# Altium integrated library Cypress PLD Ultra37000.IntLib: 166 symbols (part 1 of 12)
Pins are listed as number, name and electrical type; pins without a type are passive.

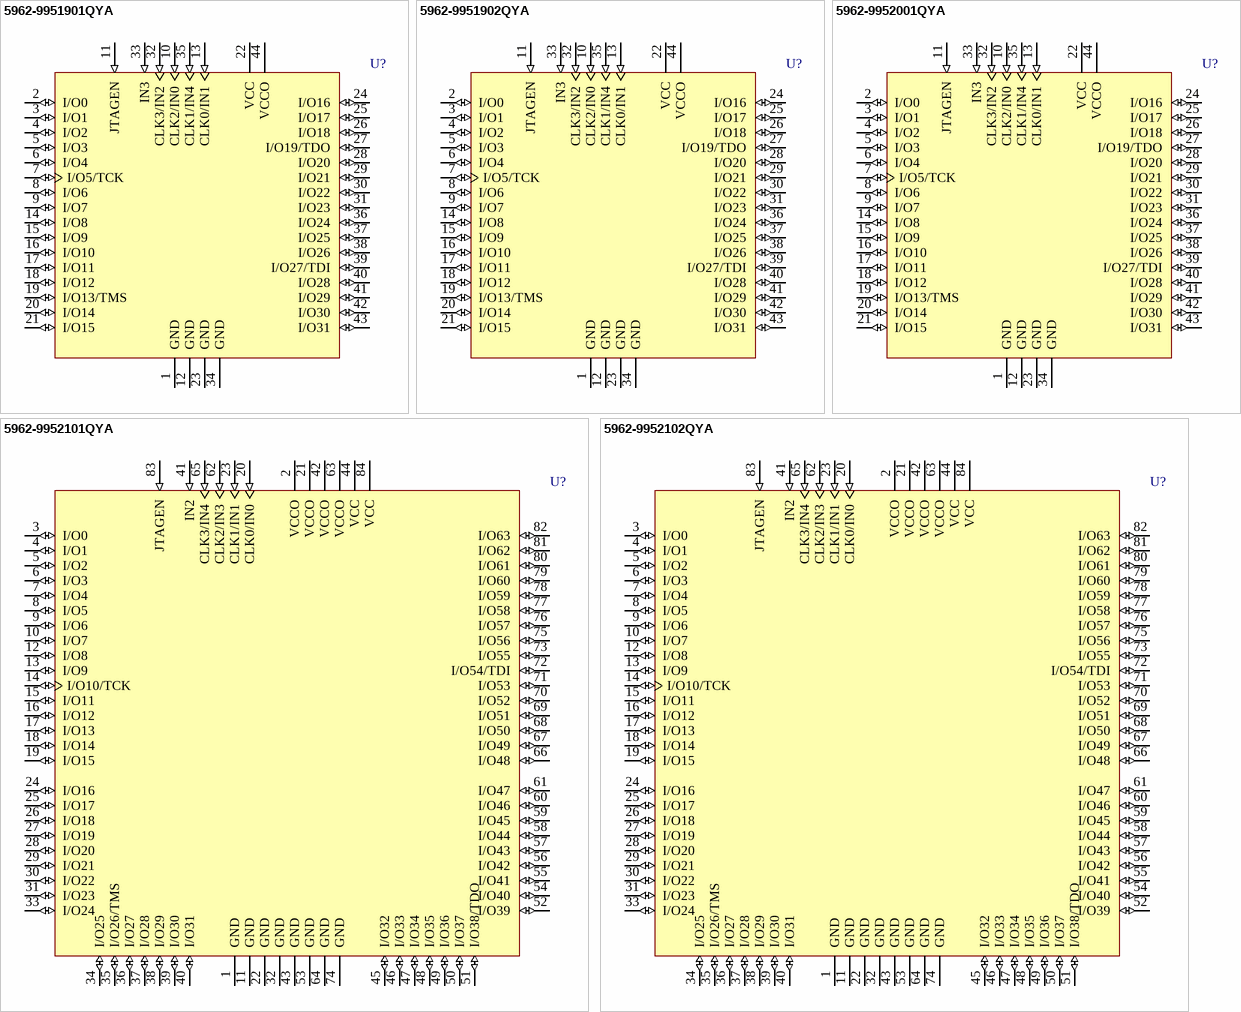
[diagram p0: symbols 5962-9951901QYA to 5962-9952102QYA]

## 5962-9951901QYA
designator U?
Ultra37000 5V, ISR High-Performance CPLD; Note: Component Name corresponds to Military Range; Published: 11-Dec-2002; LatestRevisionDate: 13-Apr-2006; LatestRevisionNote: IPC-7351 Footprint Added.; DatasheetVersion: 18-Apr-2001; PackageVersion: Mar-2001; PackageReference: Y67; Publisher: Altium Limited; PackageDescription: 44-Pin Ceramic Leaded Chip Carrier 1.27 mm Pitch; ComponentLink1Description: Manufacturer Link; ComponentLink1URL: http://www.cypress.com/; ComponentLink2Description: Datasheet; ComponentLink2URL: http://www.cypress.com/portal/server.pt/gateway/PTARGS_0_2_1524_209_259_43/http%3B/sjapp20.mis.cypress.com%3B7001/publishedcontent/publish/design_resources/datasheets/contents/cy37032p_5.pdf
footprint Y67_N (Leaded Chip Carrier, 44-Leads, Body 16.5x16.5mm, Pitch 1.27mm, IPC Medium Density)
footprint Y67_L (Leaded Chip Carrier, 44-Leads, Body 16.5x16.5mm, Pitch 1.27mm, IPC High Density)
footprint Y67_M (Leaded Chip Carrier, 44-Leads, Body 16.5x16.5mm, Pitch 1.27mm, IPC Low Density)
3D model Y67 (44-Pin Ceramic Leaded Chip Carrier 1.27 mm Pitch)
pins: 1 GND (power), 2 I/O0 (io), 3 I/O1 (io), 4 I/O2 (io), 5 I/O3 (io), 6 I/O4 (io), 7 I/O5/TCK (io), 8 I/O6 (io), 9 I/O7 (io), 10 CLK2/IN0 (in), 11 JTAGEN (in), 12 GND (power), 13 CLK0/IN1 (in), 14 I/O8 (io), 15 I/O9 (io), 16 I/O10 (io), 17 I/O11 (io), 18 I/O12 (io), 19 I/O13/TMS (io), 20 I/O14 (io), 21 I/O15 (io), 22 VCC (power), 23 GND (power), 24 I/O16 (io), 25 I/O17 (io), 26 I/O18 (io), 27 I/O19/TDO (io), 28 I/O20 (io), 29 I/O21 (io), 30 I/O22 (io), 31 I/O23 (io), 32 CLK3/IN2 (in), 33 IN3 (in), 34 GND (power), 35 CLK1/IN4 (in), 36 I/O24 (io), 37 I/O25 (io), 38 I/O26 (io), 39 I/O27/TDI (io), 40 I/O28 (io), 41 I/O29 (io), 42 I/O30 (io), 43 I/O31 (io), 44 VCCO (power)

## 5962-9951902QYA
designator U?
Ultra37000 5V, ISR High-Performance CPLD; Note: Component Name corresponds to Military Range; Published: 11-Dec-2002; LatestRevisionDate: 13-Apr-2006; LatestRevisionNote: IPC-7351 Footprint Added.; DatasheetVersion: 18-Apr-2001; PackageVersion: Mar-2001; PackageReference: Y67; Publisher: Altium Limited; PackageDescription: 44-Pin Ceramic Leaded Chip Carrier 1.27 mm Pitch; ComponentLink1Description: Manufacturer Link; ComponentLink1URL: http://www.cypress.com/; ComponentLink2Description: Datasheet; ComponentLink2URL: http://www.cypress.com/portal/server.pt/gateway/PTARGS_0_2_1524_209_259_43/http%3B/sjapp20.mis.cypress.com%3B7001/publishedcontent/publish/design_resources/datasheets/contents/cy37032p_5.pdf
footprint Y67_N (Leaded Chip Carrier, 44-Leads, Body 16.5x16.5mm, Pitch 1.27mm, IPC Medium Density)
footprint Y67_L (Leaded Chip Carrier, 44-Leads, Body 16.5x16.5mm, Pitch 1.27mm, IPC High Density)
footprint Y67_M (Leaded Chip Carrier, 44-Leads, Body 16.5x16.5mm, Pitch 1.27mm, IPC Low Density)
3D model Y67 (44-Pin Ceramic Leaded Chip Carrier 1.27 mm Pitch)
pins: 1 GND (power), 2 I/O0 (io), 3 I/O1 (io), 4 I/O2 (io), 5 I/O3 (io), 6 I/O4 (io), 7 I/O5/TCK (io), 8 I/O6 (io), 9 I/O7 (io), 10 CLK2/IN0 (in), 11 JTAGEN (in), 12 GND (power), 13 CLK0/IN1 (in), 14 I/O8 (io), 15 I/O9 (io), 16 I/O10 (io), 17 I/O11 (io), 18 I/O12 (io), 19 I/O13/TMS (io), 20 I/O14 (io), 21 I/O15 (io), 22 VCC (power), 23 GND (power), 24 I/O16 (io), 25 I/O17 (io), 26 I/O18 (io), 27 I/O19/TDO (io), 28 I/O20 (io), 29 I/O21 (io), 30 I/O22 (io), 31 I/O23 (io), 32 CLK3/IN2 (in), 33 IN3 (in), 34 GND (power), 35 CLK1/IN4 (in), 36 I/O24 (io), 37 I/O25 (io), 38 I/O26 (io), 39 I/O27/TDI (io), 40 I/O28 (io), 41 I/O29 (io), 42 I/O30 (io), 43 I/O31 (io), 44 VCCO (power)

## 5962-9952001QYA
designator U?
Ultra37000 3.3V, ISR High-Performance CPLD; Note: Component Name corresponds to Military Range; Published: 11-Dec-2002; LatestRevisionDate: 13-Apr-2006; LatestRevisionNote: IPC-7351 Footprint Added.; DatasheetVersion: 18-Apr-2001; PackageVersion: Mar-2001; PackageReference: Y67; Publisher: Altium Limited; PackageDescription: 44-Pin Ceramic Leaded Chip Carrier 1.27 mm Pitch; ComponentLink1Description: Manufacturer Link; ComponentLink1URL: http://www.cypress.com/; ComponentLink2Description: Datasheet; ComponentLink2URL: http://www.cypress.com/portal/server.pt/gateway/PTARGS_0_2_1524_209_259_43/http%3B/sjapp20.mis.cypress.com%3B7001/publishedcontent/publish/design_resources/datasheets/contents/cy37032p_5.pdf
footprint Y67_N (Leaded Chip Carrier, 44-Leads, Body 16.5x16.5mm, Pitch 1.27mm, IPC Medium Density)
footprint Y67_L (Leaded Chip Carrier, 44-Leads, Body 16.5x16.5mm, Pitch 1.27mm, IPC High Density)
footprint Y67_M (Leaded Chip Carrier, 44-Leads, Body 16.5x16.5mm, Pitch 1.27mm, IPC Low Density)
3D model Y67 (44-Pin Ceramic Leaded Chip Carrier 1.27 mm Pitch)
pins: 1 GND (power), 2 I/O0 (io), 3 I/O1 (io), 4 I/O2 (io), 5 I/O3 (io), 6 I/O4 (io), 7 I/O5/TCK (io), 8 I/O6 (io), 9 I/O7 (io), 10 CLK2/IN0 (in), 11 JTAGEN (in), 12 GND (power), 13 CLK0/IN1 (in), 14 I/O8 (io), 15 I/O9 (io), 16 I/O10 (io), 17 I/O11 (io), 18 I/O12 (io), 19 I/O13/TMS (io), 20 I/O14 (io), 21 I/O15 (io), 22 VCC (power), 23 GND (power), 24 I/O16 (io), 25 I/O17 (io), 26 I/O18 (io), 27 I/O19/TDO (io), 28 I/O20 (io), 29 I/O21 (io), 30 I/O22 (io), 31 I/O23 (io), 32 CLK3/IN2 (in), 33 IN3 (in), 34 GND (power), 35 CLK1/IN4 (in), 36 I/O24 (io), 37 I/O25 (io), 38 I/O26 (io), 39 I/O27/TDI (io), 40 I/O28 (io), 41 I/O29 (io), 42 I/O30 (io), 43 I/O31 (io), 44 VCCO (power)

## 5962-9952101QYA
designator U?
Ultra37000 5V, ISR High-Performance CPLD; Note: Component Name corresponds to Military Range; Published: 11-Dec-2002; LatestRevisionDate: 13-Apr-2006; LatestRevisionNote: IPC-7351 Footprint Added.; DatasheetVersion: 18-Apr-2001; PackageVersion: 15-Mar-2001; PackageReference: Y84; Publisher: Altium Limited; PackageDescription: 84-Pin Ceramic Leaded Chip Carrier 1.27 mm Pitch; ComponentLink1Description: Manufacturer Link; ComponentLink1URL: http://www.cypress.com/; ComponentLink2Description: Datasheet; ComponentLink2URL: http://www.cypress.com/portal/server.pt/gateway/PTARGS_0_2_1524_209_259_43/http%3B/sjapp20.mis.cypress.com%3B7001/publishedcontent/publish/design_resources/datasheets/contents/cy37032p_5.pdf
footprint Y84_N (Leaded Chip Carrier, 84-Leads, Body 29.2x29.2mm, Pitch 1.27mm, IPC Medium Density)
footprint Y84_L (Leaded Chip Carrier, 84-Leads, Body 29.2x29.2mm, Pitch 1.27mm, IPC High Density)
footprint Y84_M (Leaded Chip Carrier, 84-Leads, Body 29.2x29.2mm, Pitch 1.27mm, IPC Low Density)
3D model Y84 (84-Pin Ceramic Leaded Chip Carrier 1.27 mm Pitch)
pins: 1 GND (power), 2 VCCO (power), 3 I/O0 (io), 4 I/O1 (io), 5 I/O2 (io), 6 I/O3 (io), 7 I/O4 (io), 8 I/O5 (io), 9 I/O6 (io), 10 I/O7 (io), 11 GND (power), 12 I/O8 (io), 13 I/O9 (io), 14 I/O10/TCK (io), 15 I/O11 (io), 16 I/O12 (io), 17 I/O13 (io), 18 I/O14 (io), 19 I/O15 (io), 20 CLK0/IN0 (in), 21 VCCO (power), 22 GND (power), 23 CLK1/IN1 (in), 24 I/O16 (io), 25 I/O17 (io), 26 I/O18 (io), 27 I/O19 (io), 28 I/O20 (io), 29 I/O21 (io), 30 I/O22 (io), 31 I/O23 (io), 32 GND (power), 33 I/O24 (io), 34 I/O25 (io), 35 I/O26/TMS (io), 36 I/O27 (io), 37 I/O28 (io), 38 I/O29 (io), 39 I/O30 (io), 40 I/O31 (io), 41 IN2 (in), 42 VCCO (power), 43 GND (power), 44 VCC (power), 45 I/O32 (io), 46 I/O33 (io), 47 I/O34 (io), 48 I/O35 (io), 49 I/O36 (io), 50 I/O37 (io), 51 I/O38/TDO (io), 52 I/O39 (io), 53 GND (power), 54 I/O40 (io), 55 I/O41 (io), 56 I/O42 (io), 57 I/O43 (io), 58 I/O44 (io), 59 I/O45 (io), 60 I/O46 (io), 61 I/O47 (io), 62 CLK2/IN3 (in), 63 VCCO (power), 64 GND (power), 65 CLK3/IN4 (in), 66 I/O48 (io), 67 I/O49 (io), 68 I/O50 (io), 69 I/O51 (io), 70 I/O52 (io), 71 I/O53 (io), 72 I/O54/TDI (io), 73 I/O55 (io), 74 GND (power), 75 I/O56 (io), 76 I/O57 (io), 77 I/O58 (io), 78 I/O59 (io), 79 I/O60 (io), 80 I/O61 (io), 81 I/O62 (io), 82 I/O63 (io), 83 JTAGEN (in), 84 VCC (power)

## 5962-9952102QYA
designator U?
Ultra37000 5V, ISR High-Performance CPLD; Note: Component Name corresponds to Military Range; Published: 11-Dec-2002; LatestRevisionDate: 13-Apr-2006; LatestRevisionNote: IPC-7351 Footprint Added.; DatasheetVersion: 18-Apr-2001; PackageVersion: 15-Mar-2001; PackageReference: Y84; Publisher: Altium Limited; PackageDescription: 84-Pin Ceramic Leaded Chip Carrier 1.27 mm Pitch; ComponentLink1Description: Manufacturer Link; ComponentLink1URL: http://www.cypress.com/; ComponentLink2Description: Datasheet; ComponentLink2URL: http://www.cypress.com/portal/server.pt/gateway/PTARGS_0_2_1524_209_259_43/http%3B/sjapp20.mis.cypress.com%3B7001/publishedcontent/publish/design_resources/datasheets/contents/cy37032p_5.pdf
footprint Y84_N (Leaded Chip Carrier, 84-Leads, Body 29.2x29.2mm, Pitch 1.27mm, IPC Medium Density)
footprint Y84_L (Leaded Chip Carrier, 84-Leads, Body 29.2x29.2mm, Pitch 1.27mm, IPC High Density)
footprint Y84_M (Leaded Chip Carrier, 84-Leads, Body 29.2x29.2mm, Pitch 1.27mm, IPC Low Density)
3D model Y84 (84-Pin Ceramic Leaded Chip Carrier 1.27 mm Pitch)
pins: 1 GND (power), 2 VCCO (power), 3 I/O0 (io), 4 I/O1 (io), 5 I/O2 (io), 6 I/O3 (io), 7 I/O4 (io), 8 I/O5 (io), 9 I/O6 (io), 10 I/O7 (io), 11 GND (power), 12 I/O8 (io), 13 I/O9 (io), 14 I/O10/TCK (io), 15 I/O11 (io), 16 I/O12 (io), 17 I/O13 (io), 18 I/O14 (io), 19 I/O15 (io), 20 CLK0/IN0 (in), 21 VCCO (power), 22 GND (power), 23 CLK1/IN1 (in), 24 I/O16 (io), 25 I/O17 (io), 26 I/O18 (io), 27 I/O19 (io), 28 I/O20 (io), 29 I/O21 (io), 30 I/O22 (io), 31 I/O23 (io), 32 GND (power), 33 I/O24 (io), 34 I/O25 (io), 35 I/O26/TMS (io), 36 I/O27 (io), 37 I/O28 (io), 38 I/O29 (io), 39 I/O30 (io), 40 I/O31 (io), 41 IN2 (in), 42 VCCO (power), 43 GND (power), 44 VCC (power), 45 I/O32 (io), 46 I/O33 (io), 47 I/O34 (io), 48 I/O35 (io), 49 I/O36 (io), 50 I/O37 (io), 51 I/O38/TDO (io), 52 I/O39 (io), 53 GND (power), 54 I/O40 (io), 55 I/O41 (io), 56 I/O42 (io), 57 I/O43 (io), 58 I/O44 (io), 59 I/O45 (io), 60 I/O46 (io), 61 I/O47 (io), 62 CLK2/IN3 (in), 63 VCCO (power), 64 GND (power), 65 CLK3/IN4 (in), 66 I/O48 (io), 67 I/O49 (io), 68 I/O50 (io), 69 I/O51 (io), 70 I/O52 (io), 71 I/O53 (io), 72 I/O54/TDI (io), 73 I/O55 (io), 74 GND (power), 75 I/O56 (io), 76 I/O57 (io), 77 I/O58 (io), 78 I/O59 (io), 79 I/O60 (io), 80 I/O61 (io), 81 I/O62 (io), 82 I/O63 (io), 83 JTAGEN (in), 84 VCC (power)

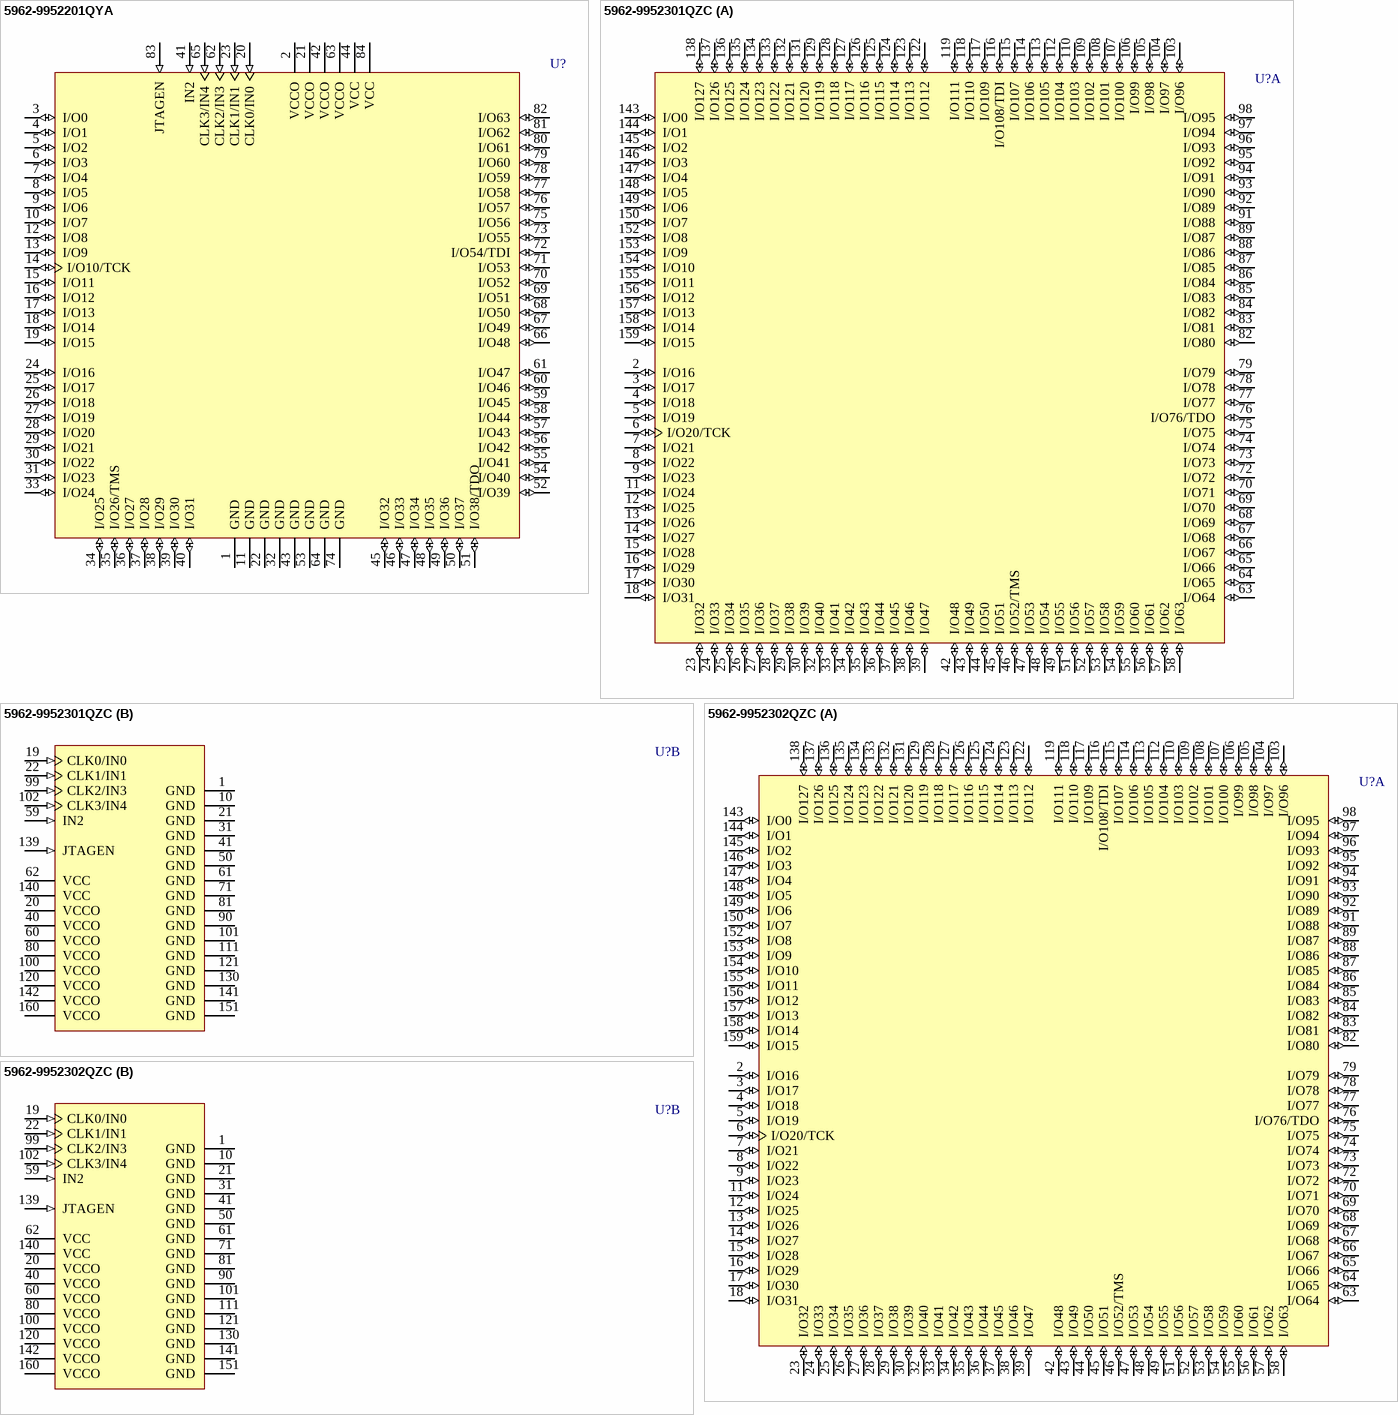
[diagram p1: symbols 5962-9952201QYA to 5962-9952302QZC]

## 5962-9952201QYA
designator U?
Ultra37000 3.3V, ISR High-Performance CPLD; Note: Component Name corresponds to Military Range; Published: 11-Dec-2002; LatestRevisionDate: 13-Apr-2006; LatestRevisionNote: IPC-7351 Footprint Added.; DatasheetVersion: 18-Apr-2001; PackageVersion: 15-Mar-2001; PackageReference: Y84; Publisher: Altium Limited; PackageDescription: 84-Pin Ceramic Leaded Chip Carrier 1.27 mm Pitch; ComponentLink1Description: Manufacturer Link; ComponentLink1URL: http://www.cypress.com/; ComponentLink2Description: Datasheet; ComponentLink2URL: http://www.cypress.com/portal/server.pt/gateway/PTARGS_0_2_1524_209_259_43/http%3B/sjapp20.mis.cypress.com%3B7001/publishedcontent/publish/design_resources/datasheets/contents/cy37032p_5.pdf
footprint Y84_N (Leaded Chip Carrier, 84-Leads, Body 29.2x29.2mm, Pitch 1.27mm, IPC Medium Density)
footprint Y84_L (Leaded Chip Carrier, 84-Leads, Body 29.2x29.2mm, Pitch 1.27mm, IPC High Density)
footprint Y84_M (Leaded Chip Carrier, 84-Leads, Body 29.2x29.2mm, Pitch 1.27mm, IPC Low Density)
3D model Y84 (84-Pin Ceramic Leaded Chip Carrier 1.27 mm Pitch)
pins: 1 GND (power), 2 VCCO (power), 3 I/O0 (io), 4 I/O1 (io), 5 I/O2 (io), 6 I/O3 (io), 7 I/O4 (io), 8 I/O5 (io), 9 I/O6 (io), 10 I/O7 (io), 11 GND (power), 12 I/O8 (io), 13 I/O9 (io), 14 I/O10/TCK (io), 15 I/O11 (io), 16 I/O12 (io), 17 I/O13 (io), 18 I/O14 (io), 19 I/O15 (io), 20 CLK0/IN0 (in), 21 VCCO (power), 22 GND (power), 23 CLK1/IN1 (in), 24 I/O16 (io), 25 I/O17 (io), 26 I/O18 (io), 27 I/O19 (io), 28 I/O20 (io), 29 I/O21 (io), 30 I/O22 (io), 31 I/O23 (io), 32 GND (power), 33 I/O24 (io), 34 I/O25 (io), 35 I/O26/TMS (io), 36 I/O27 (io), 37 I/O28 (io), 38 I/O29 (io), 39 I/O30 (io), 40 I/O31 (io), 41 IN2 (in), 42 VCCO (power), 43 GND (power), 44 VCC (power), 45 I/O32 (io), 46 I/O33 (io), 47 I/O34 (io), 48 I/O35 (io), 49 I/O36 (io), 50 I/O37 (io), 51 I/O38/TDO (io), 52 I/O39 (io), 53 GND (power), 54 I/O40 (io), 55 I/O41 (io), 56 I/O42 (io), 57 I/O43 (io), 58 I/O44 (io), 59 I/O45 (io), 60 I/O46 (io), 61 I/O47 (io), 62 CLK2/IN3 (in), 63 VCCO (power), 64 GND (power), 65 CLK3/IN4 (in), 66 I/O48 (io), 67 I/O49 (io), 68 I/O50 (io), 69 I/O51 (io), 70 I/O52 (io), 71 I/O53 (io), 72 I/O54/TDI (io), 73 I/O55 (io), 74 GND (power), 75 I/O56 (io), 76 I/O57 (io), 77 I/O58 (io), 78 I/O59 (io), 79 I/O60 (io), 80 I/O61 (io), 81 I/O62 (io), 82 I/O63 (io), 83 JTAGEN (in), 84 VCC (power)

## 5962-9952301QZC
designator U?
Ultra37000 5V, ISR High-Performance CPLD; Note: Component Name corresponds to Military Range; Published: 11-Dec-2002; LatestRevisionDate: 13-Apr-2006; LatestRevisionNote: IPC-7351 Footprint Added.; DatasheetVersion: 18-Apr-2001; PackageVersion: Dec-2000; PackageReference: U162; Publisher: Altium Limited; PackageDescription: 160-Pin Ceramic Cavity Up Quad Flat Pack 0.65 mm Pitch; ComponentLink1Description: Manufacturer Link; ComponentLink1URL: http://www.cypress.com/; ComponentLink2Description: Datasheet; ComponentLink2URL: http://www.cypress.com/portal/server.pt/gateway/PTARGS_0_2_1524_209_259_43/http%3B/sjapp20.mis.cypress.com%3B7001/publishedcontent/publish/design_resources/datasheets/contents/cy37032p_5.pdf
footprint U162_N (QFP, 160-Leads, Body 28 x 28mm, Pitch 0.65mm, IPC Medium Density)
footprint U162_L (QFP, 160-Leads, Body 28 x 28mm, Pitch 0.65mm, IPC High Density)
footprint U162_M (QFP, 160-Leads, Body 28 x 28mm, Pitch 0.65mm, IPC Low Density)
3D model U162 (160-Pin Ceramic Cavity Up Quad Flat Pack 0.65 mm Pitch)
part A pins: 2 I/O16 (io), 3 I/O17 (io), 4 I/O18 (io), 5 I/O19 (io), 6 I/O20/TCK (io), 7 I/O21 (io), 8 I/O22 (io), 9 I/O23 (io), 11 I/O24 (io), 12 I/O25 (io), 13 I/O26 (io), 14 I/O27 (io), 15 I/O28 (io), 16 I/O29 (io), 17 I/O30 (io), 18 I/O31 (io), 23 I/O32 (io), 24 I/O33 (io), 25 I/O34 (io), 26 I/O35 (io), 27 I/O36 (io), 28 I/O37 (io), 29 I/O38 (io), 30 I/O39 (io), 32 I/O40 (io), 33 I/O41 (io), 34 I/O42 (io), 35 I/O43 (io), 36 I/O44 (io), 37 I/O45 (io), 38 I/O46 (io), 39 I/O47 (io), 42 I/O48 (io), 43 I/O49 (io), 44 I/O50 (io), 45 I/O51 (io), 46 I/O52/TMS (io), 47 I/O53 (io), 48 I/O54 (io), 49 I/O55 (io), 51 I/O56 (io), 52 I/O57 (io), 53 I/O58 (io), 54 I/O59 (io), 55 I/O60 (io), 56 I/O61 (io), 57 I/O62 (io), 58 I/O63 (io), 63 I/O64 (io), 64 I/O65 (io), 65 I/O66 (io), 66 I/O67 (io), 67 I/O68 (io), 68 I/O69 (io), 69 I/O70 (io), 70 I/O71 (io), 72 I/O72 (io), 73 I/O73 (io), 74 I/O74 (io), 75 I/O75 (io), 76 I/O76/TDO (io), 77 I/O77 (io), 78 I/O78 (io), 79 I/O79 (io), 82 I/O80 (io), 83 I/O81 (io), 84 I/O82 (io), 85 I/O83 (io), 86 I/O84 (io), 87 I/O85 (io), 88 I/O86 (io), 89 I/O87 (io), 91 I/O88 (io), 92 I/O89 (io), 93 I/O90 (io), 94 I/O91 (io), 95 I/O92 (io), 96 I/O93 (io), 97 I/O94 (io), 98 I/O95 (io), 103 I/O96 (io), 104 I/O97 (io), 105 I/O98 (io), 106 I/O99 (io), 107 I/O100 (io), 108 I/O101 (io), 109 I/O102 (io), 110 I/O103 (io), 112 I/O104 (io), 113 I/O105 (io), 114 I/O106 (io), 115 I/O107 (io), 116 I/O108/TDI (io), 117 I/O109 (io), 118 I/O110 (io), 119 I/O111 (io), 122 I/O112 (io), 123 I/O113 (io), 124 I/O114 (io), 125 I/O115 (io), 126 I/O116 (io), 127 I/O117 (io), 128 I/O118 (io), 129 I/O119 (io), 131 I/O120 (io), 132 I/O121 (io), 133 I/O122 (io), 134 I/O123 (io), 135 I/O124 (io), 136 I/O125 (io), 137 I/O126 (io), 138 I/O127 (io), 143 I/O0 (io), 144 I/O1 (io), 145 I/O2 (io), 146 I/O3 (io), 147 I/O4 (io), 148 I/O5 (io), 149 I/O6 (io), 150 I/O7 (io), 152 I/O8 (io), 153 I/O9 (io), 154 I/O10 (io), 155 I/O11 (io), 156 I/O12 (io), 157 I/O13 (io), 158 I/O14 (io), 159 I/O15 (io)
part B pins: 1 GND (power), 10 GND (power), 19 CLK0/IN0 (in), 20 VCCO (power), 21 GND (power), 22 CLK1/IN1 (in), 31 GND (power), 40 VCCO (power), 41 GND (power), 50 GND (power), 59 IN2 (in), 60 VCCO (power), 61 GND (power), 62 VCC (power), 71 GND (power), 80 VCCO (power), 81 GND (power), 90 GND (power), 99 CLK2/IN3 (in), 100 VCCO (power), 101 GND (power), 102 CLK3/IN4 (in), 111 GND (power), 120 VCCO (power), 121 GND (power), 130 GND (power), 139 JTAGEN (in), 140 VCC (power), 141 GND (power), 142 VCCO (power), 151 GND (power), 160 VCCO (power)

## 5962-9952302QZC
designator U?
Ultra37000 5V, ISR High-Performance CPLD; Note: Component Name corresponds to Military Range; Published: 11-Dec-2002; LatestRevisionDate: 13-Apr-2006; LatestRevisionNote: IPC-7351 Footprint Added.; DatasheetVersion: 18-Apr-2001; PackageVersion: Dec-2000; PackageReference: U162; Publisher: Altium Limited; PackageDescription: 160-Pin Ceramic Cavity Up Quad Flat Pack 0.65 mm Pitch; ComponentLink1Description: Manufacturer Link; ComponentLink1URL: http://www.cypress.com/; ComponentLink2Description: Datasheet; ComponentLink2URL: http://www.cypress.com/portal/server.pt/gateway/PTARGS_0_2_1524_209_259_43/http%3B/sjapp20.mis.cypress.com%3B7001/publishedcontent/publish/design_resources/datasheets/contents/cy37032p_5.pdf
footprint U162_N (QFP, 160-Leads, Body 28 x 28mm, Pitch 0.65mm, IPC Medium Density)
footprint U162_L (QFP, 160-Leads, Body 28 x 28mm, Pitch 0.65mm, IPC High Density)
footprint U162_M (QFP, 160-Leads, Body 28 x 28mm, Pitch 0.65mm, IPC Low Density)
3D model U162 (160-Pin Ceramic Cavity Up Quad Flat Pack 0.65 mm Pitch)
part A pins: 2 I/O16 (io), 3 I/O17 (io), 4 I/O18 (io), 5 I/O19 (io), 6 I/O20/TCK (io), 7 I/O21 (io), 8 I/O22 (io), 9 I/O23 (io), 11 I/O24 (io), 12 I/O25 (io), 13 I/O26 (io), 14 I/O27 (io), 15 I/O28 (io), 16 I/O29 (io), 17 I/O30 (io), 18 I/O31 (io), 23 I/O32 (io), 24 I/O33 (io), 25 I/O34 (io), 26 I/O35 (io), 27 I/O36 (io), 28 I/O37 (io), 29 I/O38 (io), 30 I/O39 (io), 32 I/O40 (io), 33 I/O41 (io), 34 I/O42 (io), 35 I/O43 (io), 36 I/O44 (io), 37 I/O45 (io), 38 I/O46 (io), 39 I/O47 (io), 42 I/O48 (io), 43 I/O49 (io), 44 I/O50 (io), 45 I/O51 (io), 46 I/O52/TMS (io), 47 I/O53 (io), 48 I/O54 (io), 49 I/O55 (io), 51 I/O56 (io), 52 I/O57 (io), 53 I/O58 (io), 54 I/O59 (io), 55 I/O60 (io), 56 I/O61 (io), 57 I/O62 (io), 58 I/O63 (io), 63 I/O64 (io), 64 I/O65 (io), 65 I/O66 (io), 66 I/O67 (io), 67 I/O68 (io), 68 I/O69 (io), 69 I/O70 (io), 70 I/O71 (io), 72 I/O72 (io), 73 I/O73 (io), 74 I/O74 (io), 75 I/O75 (io), 76 I/O76/TDO (io), 77 I/O77 (io), 78 I/O78 (io), 79 I/O79 (io), 82 I/O80 (io), 83 I/O81 (io), 84 I/O82 (io), 85 I/O83 (io), 86 I/O84 (io), 87 I/O85 (io), 88 I/O86 (io), 89 I/O87 (io), 91 I/O88 (io), 92 I/O89 (io), 93 I/O90 (io), 94 I/O91 (io), 95 I/O92 (io), 96 I/O93 (io), 97 I/O94 (io), 98 I/O95 (io), 103 I/O96 (io), 104 I/O97 (io), 105 I/O98 (io), 106 I/O99 (io), 107 I/O100 (io), 108 I/O101 (io), 109 I/O102 (io), 110 I/O103 (io), 112 I/O104 (io), 113 I/O105 (io), 114 I/O106 (io), 115 I/O107 (io), 116 I/O108/TDI (io), 117 I/O109 (io), 118 I/O110 (io), 119 I/O111 (io), 122 I/O112 (io), 123 I/O113 (io), 124 I/O114 (io), 125 I/O115 (io), 126 I/O116 (io), 127 I/O117 (io), 128 I/O118 (io), 129 I/O119 (io), 131 I/O120 (io), 132 I/O121 (io), 133 I/O122 (io), 134 I/O123 (io), 135 I/O124 (io), 136 I/O125 (io), 137 I/O126 (io), 138 I/O127 (io), 143 I/O0 (io), 144 I/O1 (io), 145 I/O2 (io), 146 I/O3 (io), 147 I/O4 (io), 148 I/O5 (io), 149 I/O6 (io), 150 I/O7 (io), 152 I/O8 (io), 153 I/O9 (io), 154 I/O10 (io), 155 I/O11 (io), 156 I/O12 (io), 157 I/O13 (io), 158 I/O14 (io), 159 I/O15 (io)
part B pins: 1 GND (power), 10 GND (power), 19 CLK0/IN0 (in), 20 VCCO (power), 21 GND (power), 22 CLK1/IN1 (in), 31 GND (power), 40 VCCO (power), 41 GND (power), 50 GND (power), 59 IN2 (in), 60 VCCO (power), 61 GND (power), 62 VCC (power), 71 GND (power), 80 VCCO (power), 81 GND (power), 90 GND (power), 99 CLK2/IN3 (in), 100 VCCO (power), 101 GND (power), 102 CLK3/IN4 (in), 111 GND (power), 120 VCCO (power), 121 GND (power), 130 GND (power), 139 JTAGEN (in), 140 VCC (power), 141 GND (power), 142 VCCO (power), 151 GND (power), 160 VCCO (power)

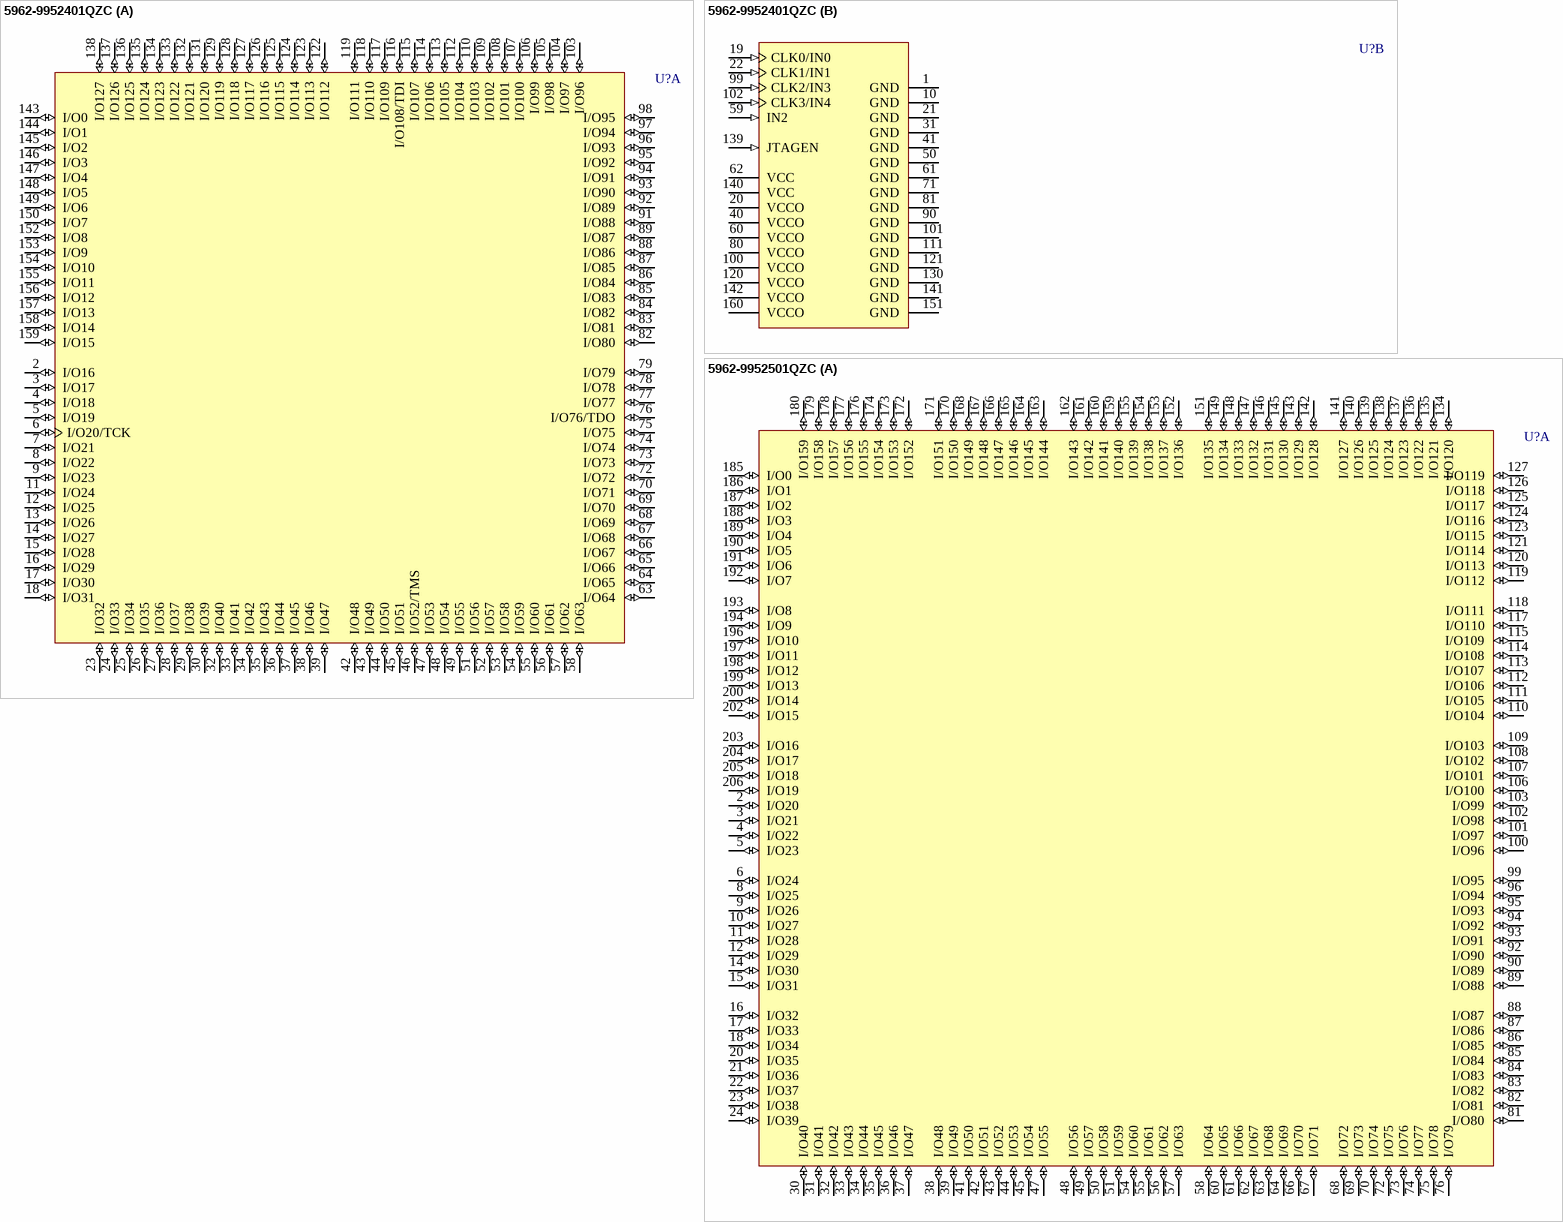
[diagram p2: symbols 5962-9952401QZC to 5962-9952501QZC]

## 5962-9952401QZC
designator U?
Ultra37000 3.3V, ISR High-Performance CPLD; Note: Component Name corresponds to Military Range; Published: 11-Dec-2002; LatestRevisionDate: 13-Apr-2006; LatestRevisionNote: IPC-7351 Footprint Added.; DatasheetVersion: 18-Apr-2001; PackageVersion: Dec-2000; PackageReference: U162; Publisher: Altium Limited; PackageDescription: 160-Pin Ceramic Cavity Up Quad Flat Pack 0.65 mm Pitch; ComponentLink1Description: Manufacturer Link; ComponentLink1URL: http://www.cypress.com/; ComponentLink2Description: Datasheet; ComponentLink2URL: http://www.cypress.com/portal/server.pt/gateway/PTARGS_0_2_1524_209_259_43/http%3B/sjapp20.mis.cypress.com%3B7001/publishedcontent/publish/design_resources/datasheets/contents/cy37032p_5.pdf
footprint U162_N (QFP, 160-Leads, Body 28 x 28mm, Pitch 0.65mm, IPC Medium Density)
footprint U162_L (QFP, 160-Leads, Body 28 x 28mm, Pitch 0.65mm, IPC High Density)
footprint U162_M (QFP, 160-Leads, Body 28 x 28mm, Pitch 0.65mm, IPC Low Density)
3D model U162 (160-Pin Ceramic Cavity Up Quad Flat Pack 0.65 mm Pitch)
part A pins: 2 I/O16 (io), 3 I/O17 (io), 4 I/O18 (io), 5 I/O19 (io), 6 I/O20/TCK (io), 7 I/O21 (io), 8 I/O22 (io), 9 I/O23 (io), 11 I/O24 (io), 12 I/O25 (io), 13 I/O26 (io), 14 I/O27 (io), 15 I/O28 (io), 16 I/O29 (io), 17 I/O30 (io), 18 I/O31 (io), 23 I/O32 (io), 24 I/O33 (io), 25 I/O34 (io), 26 I/O35 (io), 27 I/O36 (io), 28 I/O37 (io), 29 I/O38 (io), 30 I/O39 (io), 32 I/O40 (io), 33 I/O41 (io), 34 I/O42 (io), 35 I/O43 (io), 36 I/O44 (io), 37 I/O45 (io), 38 I/O46 (io), 39 I/O47 (io), 42 I/O48 (io), 43 I/O49 (io), 44 I/O50 (io), 45 I/O51 (io), 46 I/O52/TMS (io), 47 I/O53 (io), 48 I/O54 (io), 49 I/O55 (io), 51 I/O56 (io), 52 I/O57 (io), 53 I/O58 (io), 54 I/O59 (io), 55 I/O60 (io), 56 I/O61 (io), 57 I/O62 (io), 58 I/O63 (io), 63 I/O64 (io), 64 I/O65 (io), 65 I/O66 (io), 66 I/O67 (io), 67 I/O68 (io), 68 I/O69 (io), 69 I/O70 (io), 70 I/O71 (io), 72 I/O72 (io), 73 I/O73 (io), 74 I/O74 (io), 75 I/O75 (io), 76 I/O76/TDO (io), 77 I/O77 (io), 78 I/O78 (io), 79 I/O79 (io), 82 I/O80 (io), 83 I/O81 (io), 84 I/O82 (io), 85 I/O83 (io), 86 I/O84 (io), 87 I/O85 (io), 88 I/O86 (io), 89 I/O87 (io), 91 I/O88 (io), 92 I/O89 (io), 93 I/O90 (io), 94 I/O91 (io), 95 I/O92 (io), 96 I/O93 (io), 97 I/O94 (io), 98 I/O95 (io), 103 I/O96 (io), 104 I/O97 (io), 105 I/O98 (io), 106 I/O99 (io), 107 I/O100 (io), 108 I/O101 (io), 109 I/O102 (io), 110 I/O103 (io), 112 I/O104 (io), 113 I/O105 (io), 114 I/O106 (io), 115 I/O107 (io), 116 I/O108/TDI (io), 117 I/O109 (io), 118 I/O110 (io), 119 I/O111 (io), 122 I/O112 (io), 123 I/O113 (io), 124 I/O114 (io), 125 I/O115 (io), 126 I/O116 (io), 127 I/O117 (io), 128 I/O118 (io), 129 I/O119 (io), 131 I/O120 (io), 132 I/O121 (io), 133 I/O122 (io), 134 I/O123 (io), 135 I/O124 (io), 136 I/O125 (io), 137 I/O126 (io), 138 I/O127 (io), 143 I/O0 (io), 144 I/O1 (io), 145 I/O2 (io), 146 I/O3 (io), 147 I/O4 (io), 148 I/O5 (io), 149 I/O6 (io), 150 I/O7 (io), 152 I/O8 (io), 153 I/O9 (io), 154 I/O10 (io), 155 I/O11 (io), 156 I/O12 (io), 157 I/O13 (io), 158 I/O14 (io), 159 I/O15 (io)
part B pins: 1 GND (power), 10 GND (power), 19 CLK0/IN0 (in), 20 VCCO (power), 21 GND (power), 22 CLK1/IN1 (in), 31 GND (power), 40 VCCO (power), 41 GND (power), 50 GND (power), 59 IN2 (in), 60 VCCO (power), 61 GND (power), 62 VCC (power), 71 GND (power), 80 VCCO (power), 81 GND (power), 90 GND (power), 99 CLK2/IN3 (in), 100 VCCO (power), 101 GND (power), 102 CLK3/IN4 (in), 111 GND (power), 120 VCCO (power), 121 GND (power), 130 GND (power), 139 JTAGEN (in), 140 VCC (power), 141 GND (power), 142 VCCO (power), 151 GND (power), 160 VCCO (power)

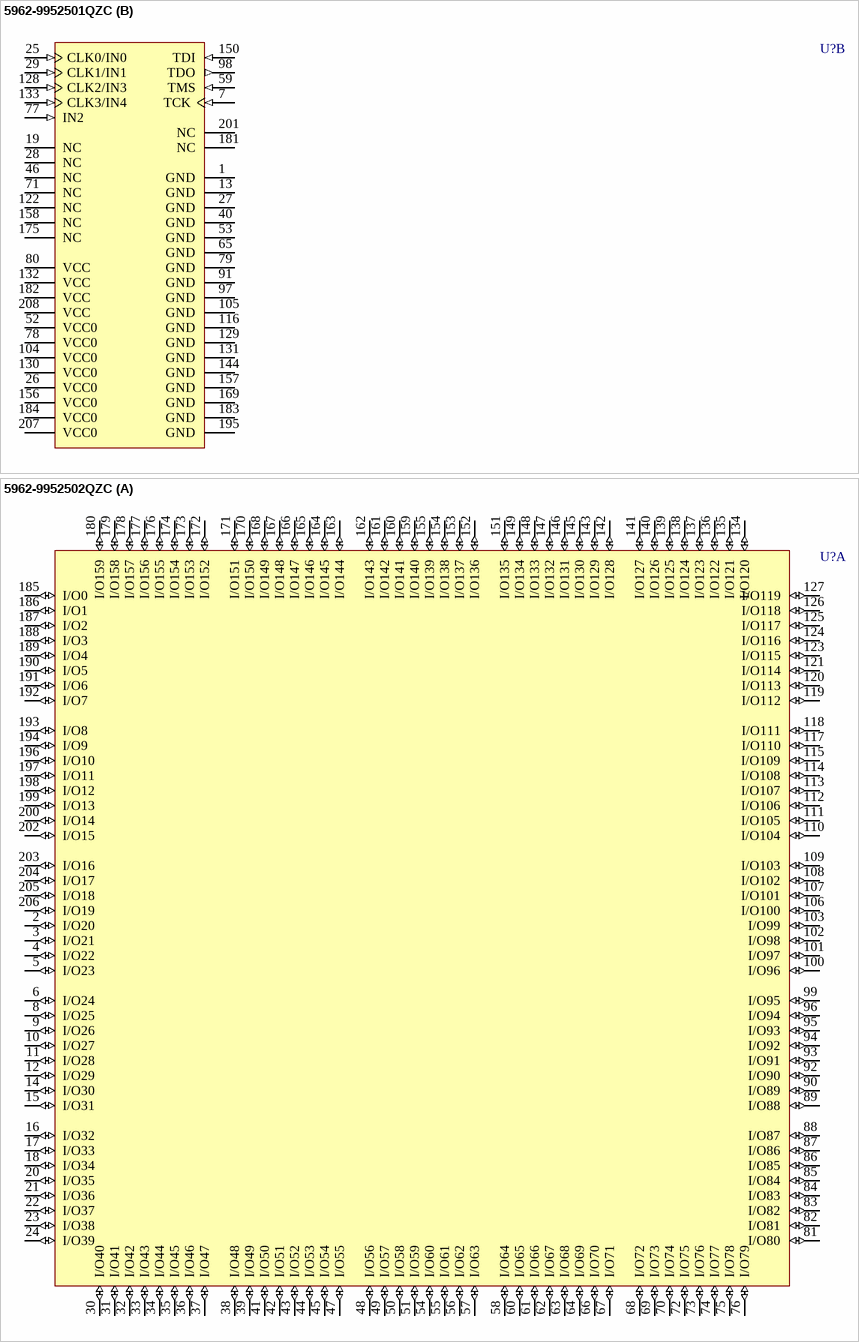
[diagram p3: symbols 5962-9952501QZC to 5962-9952502QZC]

## 5962-9952501QZC
designator U?
Ultra37000 5V, ISR High-Performance CPLD; Note: Component Name corresponds to Military Range; Published: 11-Dec-2002; LatestRevisionDate: 13-Apr-2006; LatestRevisionNote: IPC-7351 Footprint Added.; DatasheetVersion: 18-Apr-2001; PackageVersion: Dec-2000; PackageReference: U208; Publisher: Altium Limited; PackageDescription: 208-Pin Ceramic Cavity Up Shrink Quad Flat Pack 0.5 mm Pitch; ComponentLink1Description: Manufacturer Link; ComponentLink1URL: http://www.cypress.com/; ComponentLink2Description: Datasheet; ComponentLink2URL: http://www.cypress.com/portal/server.pt/gateway/PTARGS_0_2_1524_209_259_43/http%3B/sjapp20.mis.cypress.com%3B7001/publishedcontent/publish/design_resources/datasheets/contents/cy37032p_5.pdf
footprint U208_N (Shrink QFP, 208-Leads, Body 28x28mm, Pitch 0.5mm, IPC Medium Density)
footprint U208_L (Shrink QFP, 208-Leads, Body 28x28mm, Pitch 0.5mm, IPC High Density)
footprint U208_M (Shrink QFP, 208-Leads, Body 28x28mm, Pitch 0.5mm, IPC Low Density)
3D model U208 (208-Pin Ceramic Cavity Up Shrink Quad Flat Pack 0.5 mm Pitch)
part A pins: 2 I/O20 (io), 3 I/O21 (io), 4 I/O22 (io), 5 I/O23 (io), 6 I/O24 (io), 8 I/O25 (io), 9 I/O26 (io), 10 I/O27 (io), 11 I/O28 (io), 12 I/O29 (io), 14 I/O30 (io), 15 I/O31 (io), 16 I/O32 (io), 17 I/O33 (io), 18 I/O34 (io), 20 I/O35 (io), 21 I/O36 (io), 22 I/O37 (io), 23 I/O38 (io), 24 I/O39 (io), 30 I/O40 (io), 31 I/O41 (io), 32 I/O42 (io), 33 I/O43 (io), 34 I/O44 (io), 35 I/O45 (io), 36 I/O46 (io), 37 I/O47 (io), 38 I/O48 (io), 39 I/O49 (io), 41 I/O50 (io), 42 I/O51 (io), 43 I/O52 (io), 44 I/O53 (io), 45 I/O54 (io), 47 I/O55 (io), 48 I/O56 (io), 49 I/O57 (io), 50 I/O58 (io), 51 I/O59 (io), 54 I/O60 (io), 55 I/O61 (io), 56 I/O62 (io), 57 I/O63 (io), 58 I/O64 (io), 60 I/O65 (io), 61 I/O66 (io), 62 I/O67 (io), 63 I/O68 (io), 64 I/O69 (io), 66 I/O70 (io), 67 I/O71 (io), 68 I/O72 (io), 69 I/O73 (io), 70 I/O74 (io), 72 I/O75 (io), 73 I/O76 (io), 74 I/O77 (io), 75 I/O78 (io), 76 I/O79 (io), 81 I/O80 (io), 82 I/O81 (io), 83 I/O82 (io), 84 I/O83 (io), 85 I/O84 (io), 86 I/O85 (io), 87 I/O86 (io), 88 I/O87 (io), 89 I/O88 (io), 90 I/O89 (io), 92 I/O90 (io), 93 I/O91 (io), 94 I/O92 (io), 95 I/O93 (io), 96 I/O94 (io), 99 I/O95 (io), 100 I/O96 (io), 101 I/O97 (io), 102 I/O98 (io), 103 I/O99 (io), 106 I/O100 (io), 107 I/O101 (io), 108 I/O102 (io), 109 I/O103 (io), 110 I/O104 (io), 111 I/O105 (io), 112 I/O106 (io), 113 I/O107 (io), 114 I/O108 (io), 115 I/O109 (io), 117 I/O110 (io), 118 I/O111 (io), 119 I/O112 (io), 120 I/O113 (io), 121 I/O114 (io), 123 I/O115 (io), 124 I/O116 (io), 125 I/O117 (io), 126 I/O118 (io), 127 I/O119 (io), 134 I/O120 (io), 135 I/O121 (io), 136 I/O122 (io), 137 I/O123 (io), 138 I/O124 (io), 139 I/O125 (io), 140 I/O126 (io), 141 I/O127 (io), 142 I/O128 (io), 143 I/O129 (io), 145 I/O130 (io), 146 I/O131 (io), 147 I/O132 (io), 148 I/O133 (io), 149 I/O134 (io), 151 I/O135 (io), 152 I/O136 (io), 153 I/O137 (io), 154 I/O138 (io), 155 I/O139 (io), 159 I/O140 (io), 160 I/O141 (io), 161 I/O142 (io), 162 I/O143 (io), 163 I/O144 (io), 164 I/O145 (io), 165 I/O146 (io), 166 I/O147 (io), 167 I/O148 (io), 168 I/O149 (io), 170 I/O150 (io), 171 I/O151 (io), 172 I/O152 (io), 173 I/O153 (io), 174 I/O154 (io), 176 I/O155 (io), 177 I/O156 (io), 178 I/O157 (io), 179 I/O158 (io), 180 I/O159 (io), 185 I/O0 (io), 186 I/O1 (io), 187 I/O2 (io), 188 I/O3 (io), 189 I/O4 (io), 190 I/O5 (io), 191 I/O6 (io), 192 I/O7 (io), 193 I/O8 (io), 194 I/O9 (io), 196 I/O10 (io), 197 I/O11 (io), 198 I/O12 (io), 199 I/O13 (io), 200 I/O14 (io), 202 I/O15 (io), 203 I/O16 (io), 204 I/O17 (io), 205 I/O18 (io), 206 I/O19 (io)
part B pins: 1 GND (power), 7 TCK (in), 13 GND (power), 19 NC, 25 CLK0/IN0 (in), 26 VCC0 (power), 27 GND (power), 28 NC, 29 CLK1/IN1 (in), 40 GND (power), 46 NC, 52 VCC0 (power), 53 GND (power), 59 TMS (in), 65 GND (power), 71 NC, 77 IN2 (in), 78 VCC0 (power), 79 GND (power), 80 VCC (power), 91 GND (power), 97 GND (power), 98 TDO (out), 104 VCC0 (power), 105 GND (power), 116 GND (power), 122 NC, 128 CLK2/IN3 (in), 129 GND (power), 130 VCC0 (power), 131 GND (power), 132 VCC (power), 133 CLK3/IN4 (in), 144 GND (power), 150 TDI (in), 156 VCC0 (power), 157 GND (power), 158 NC, 169 GND (power), 175 NC, 181 NC, 182 VCC (power), 183 GND (power), 184 VCC0 (power), 195 GND (power), 201 NC, 207 VCC0 (power), 208 VCC (power)

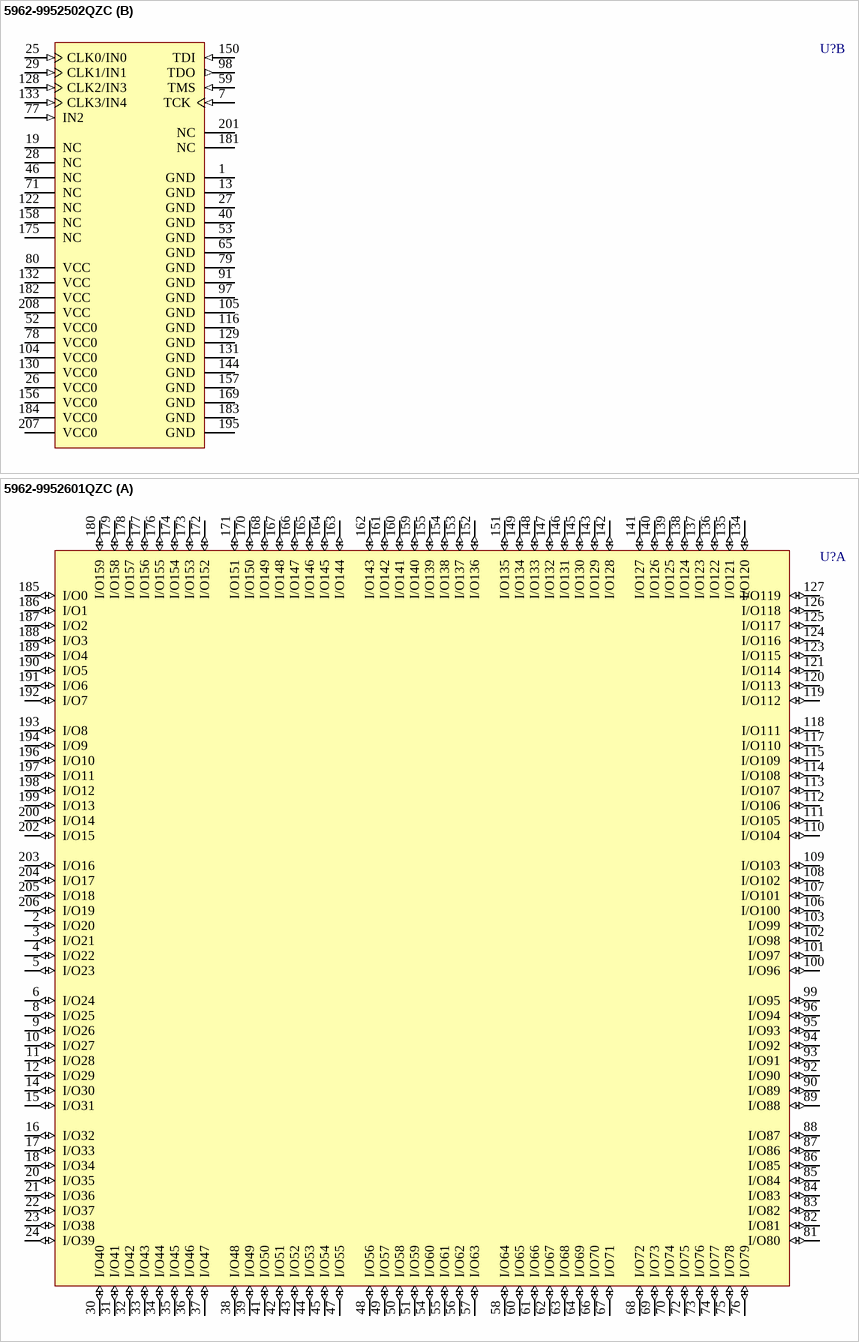
[diagram p4: symbols 5962-9952502QZC to 5962-9952601QZC]

## 5962-9952502QZC
designator U?
Ultra37000 5V, ISR High-Performance CPLD; Note: Component Name corresponds to Military Range; Published: 11-Dec-2002; LatestRevisionDate: 13-Apr-2006; LatestRevisionNote: IPC-7351 Footprint Added.; DatasheetVersion: 18-Apr-2001; PackageVersion: Dec-2000; PackageReference: U208; Publisher: Altium Limited; PackageDescription: 208-Pin Ceramic Cavity Up Shrink Quad Flat Pack 0.5 mm Pitch; ComponentLink1Description: Manufacturer Link; ComponentLink1URL: http://www.cypress.com/; ComponentLink2Description: Datasheet; ComponentLink2URL: http://www.cypress.com/portal/server.pt/gateway/PTARGS_0_2_1524_209_259_43/http%3B/sjapp20.mis.cypress.com%3B7001/publishedcontent/publish/design_resources/datasheets/contents/cy37032p_5.pdf
footprint U208_N (Shrink QFP, 208-Leads, Body 28x28mm, Pitch 0.5mm, IPC Medium Density)
footprint U208_L (Shrink QFP, 208-Leads, Body 28x28mm, Pitch 0.5mm, IPC High Density)
footprint U208_M (Shrink QFP, 208-Leads, Body 28x28mm, Pitch 0.5mm, IPC Low Density)
3D model U208 (208-Pin Ceramic Cavity Up Shrink Quad Flat Pack 0.5 mm Pitch)
part A pins: 2 I/O20 (io), 3 I/O21 (io), 4 I/O22 (io), 5 I/O23 (io), 6 I/O24 (io), 8 I/O25 (io), 9 I/O26 (io), 10 I/O27 (io), 11 I/O28 (io), 12 I/O29 (io), 14 I/O30 (io), 15 I/O31 (io), 16 I/O32 (io), 17 I/O33 (io), 18 I/O34 (io), 20 I/O35 (io), 21 I/O36 (io), 22 I/O37 (io), 23 I/O38 (io), 24 I/O39 (io), 30 I/O40 (io), 31 I/O41 (io), 32 I/O42 (io), 33 I/O43 (io), 34 I/O44 (io), 35 I/O45 (io), 36 I/O46 (io), 37 I/O47 (io), 38 I/O48 (io), 39 I/O49 (io), 41 I/O50 (io), 42 I/O51 (io), 43 I/O52 (io), 44 I/O53 (io), 45 I/O54 (io), 47 I/O55 (io), 48 I/O56 (io), 49 I/O57 (io), 50 I/O58 (io), 51 I/O59 (io), 54 I/O60 (io), 55 I/O61 (io), 56 I/O62 (io), 57 I/O63 (io), 58 I/O64 (io), 60 I/O65 (io), 61 I/O66 (io), 62 I/O67 (io), 63 I/O68 (io), 64 I/O69 (io), 66 I/O70 (io), 67 I/O71 (io), 68 I/O72 (io), 69 I/O73 (io), 70 I/O74 (io), 72 I/O75 (io), 73 I/O76 (io), 74 I/O77 (io), 75 I/O78 (io), 76 I/O79 (io), 81 I/O80 (io), 82 I/O81 (io), 83 I/O82 (io), 84 I/O83 (io), 85 I/O84 (io), 86 I/O85 (io), 87 I/O86 (io), 88 I/O87 (io), 89 I/O88 (io), 90 I/O89 (io), 92 I/O90 (io), 93 I/O91 (io), 94 I/O92 (io), 95 I/O93 (io), 96 I/O94 (io), 99 I/O95 (io), 100 I/O96 (io), 101 I/O97 (io), 102 I/O98 (io), 103 I/O99 (io), 106 I/O100 (io), 107 I/O101 (io), 108 I/O102 (io), 109 I/O103 (io), 110 I/O104 (io), 111 I/O105 (io), 112 I/O106 (io), 113 I/O107 (io), 114 I/O108 (io), 115 I/O109 (io), 117 I/O110 (io), 118 I/O111 (io), 119 I/O112 (io), 120 I/O113 (io), 121 I/O114 (io), 123 I/O115 (io), 124 I/O116 (io), 125 I/O117 (io), 126 I/O118 (io), 127 I/O119 (io), 134 I/O120 (io), 135 I/O121 (io), 136 I/O122 (io), 137 I/O123 (io), 138 I/O124 (io), 139 I/O125 (io), 140 I/O126 (io), 141 I/O127 (io), 142 I/O128 (io), 143 I/O129 (io), 145 I/O130 (io), 146 I/O131 (io), 147 I/O132 (io), 148 I/O133 (io), 149 I/O134 (io), 151 I/O135 (io), 152 I/O136 (io), 153 I/O137 (io), 154 I/O138 (io), 155 I/O139 (io), 159 I/O140 (io), 160 I/O141 (io), 161 I/O142 (io), 162 I/O143 (io), 163 I/O144 (io), 164 I/O145 (io), 165 I/O146 (io), 166 I/O147 (io), 167 I/O148 (io), 168 I/O149 (io), 170 I/O150 (io), 171 I/O151 (io), 172 I/O152 (io), 173 I/O153 (io), 174 I/O154 (io), 176 I/O155 (io), 177 I/O156 (io), 178 I/O157 (io), 179 I/O158 (io), 180 I/O159 (io), 185 I/O0 (io), 186 I/O1 (io), 187 I/O2 (io), 188 I/O3 (io), 189 I/O4 (io), 190 I/O5 (io), 191 I/O6 (io), 192 I/O7 (io), 193 I/O8 (io), 194 I/O9 (io), 196 I/O10 (io), 197 I/O11 (io), 198 I/O12 (io), 199 I/O13 (io), 200 I/O14 (io), 202 I/O15 (io), 203 I/O16 (io), 204 I/O17 (io), 205 I/O18 (io), 206 I/O19 (io)
part B pins: 1 GND (power), 7 TCK (in), 13 GND (power), 19 NC, 25 CLK0/IN0 (in), 26 VCC0 (power), 27 GND (power), 28 NC, 29 CLK1/IN1 (in), 40 GND (power), 46 NC, 52 VCC0 (power), 53 GND (power), 59 TMS (in), 65 GND (power), 71 NC, 77 IN2 (in), 78 VCC0 (power), 79 GND (power), 80 VCC (power), 91 GND (power), 97 GND (power), 98 TDO (out), 104 VCC0 (power), 105 GND (power), 116 GND (power), 122 NC, 128 CLK2/IN3 (in), 129 GND (power), 130 VCC0 (power), 131 GND (power), 132 VCC (power), 133 CLK3/IN4 (in), 144 GND (power), 150 TDI (in), 156 VCC0 (power), 157 GND (power), 158 NC, 169 GND (power), 175 NC, 181 NC, 182 VCC (power), 183 GND (power), 184 VCC0 (power), 195 GND (power), 201 NC, 207 VCC0 (power), 208 VCC (power)

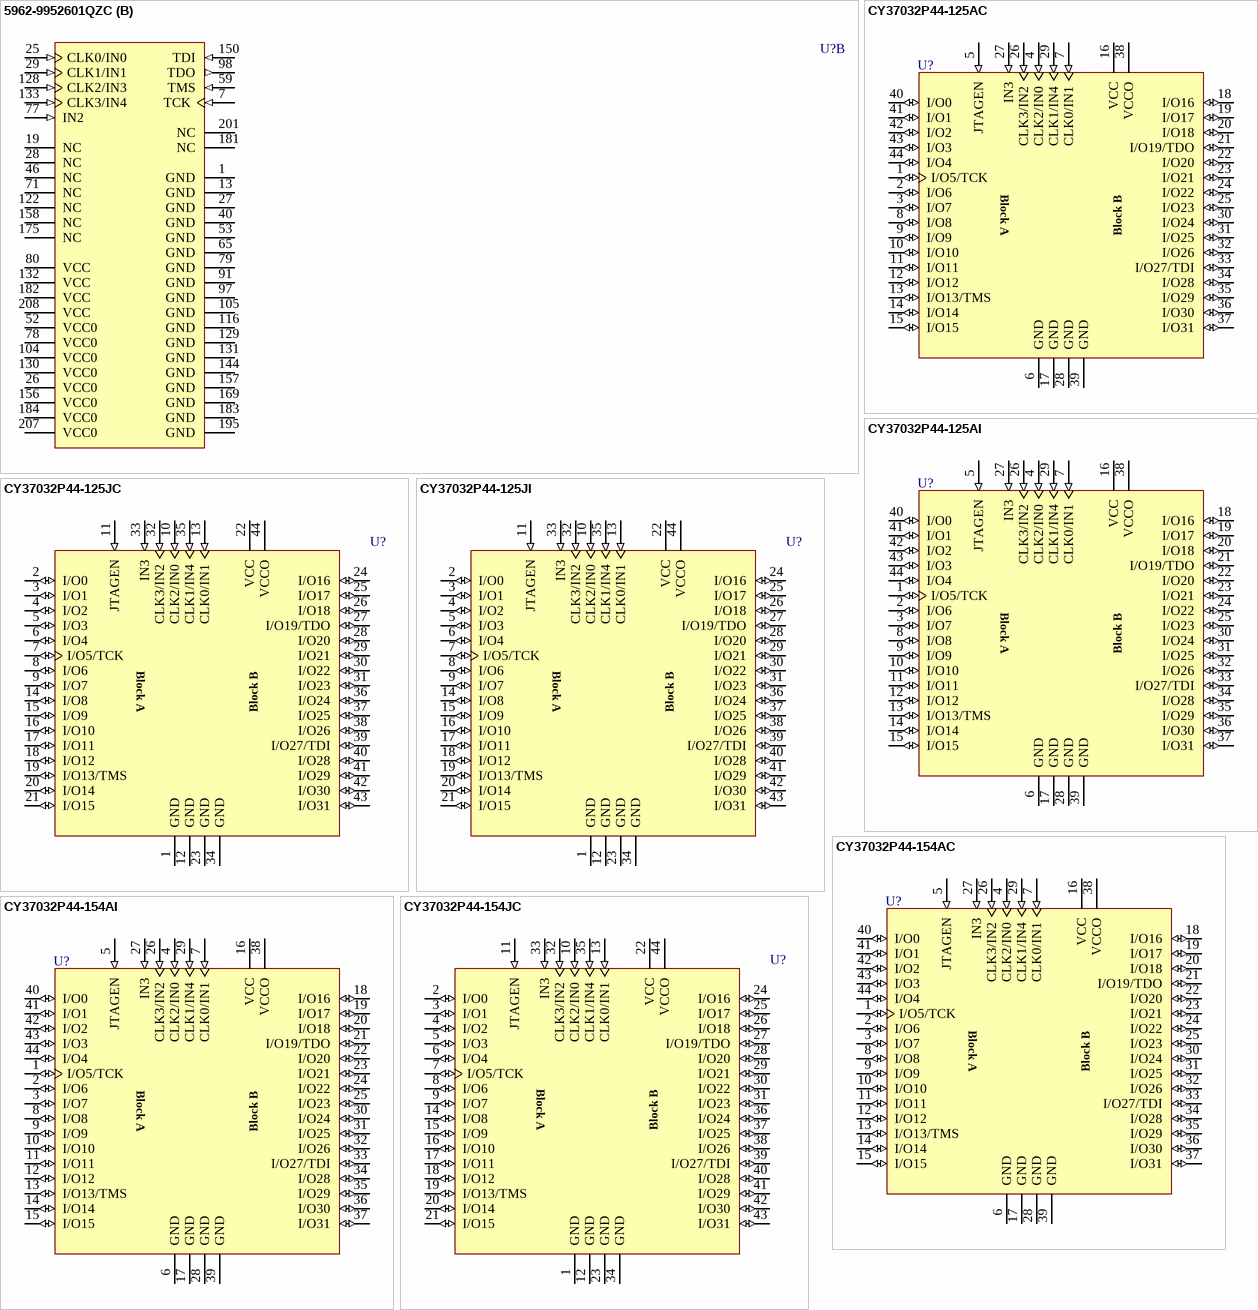
[diagram p5: symbols 5962-9952601QZC to CY37032P44-154JC]

## 5962-9952601QZC
designator U?
Ultra37000 3.3V, ISR High-Performance CPLD; Note: Component Name corresponds to Military Range; Published: 11-Dec-2002; LatestRevisionDate: 13-Apr-2006; LatestRevisionNote: IPC-7351 Footprint Added.; DatasheetVersion: 18-Apr-2001; PackageVersion: Dec-2000; PackageReference: U208; Publisher: Altium Limited; PackageDescription: 208-Pin Ceramic Cavity Up Shrink Quad Flat Pack 0.5 mm Pitch; ComponentLink1Description: Manufacturer Link; ComponentLink1URL: http://www.cypress.com/; ComponentLink2Description: Datasheet; ComponentLink2URL: http://www.cypress.com/portal/server.pt/gateway/PTARGS_0_2_1524_209_259_43/http%3B/sjapp20.mis.cypress.com%3B7001/publishedcontent/publish/design_resources/datasheets/contents/cy37032p_5.pdf
footprint U208_N (Shrink QFP, 208-Leads, Body 28x28mm, Pitch 0.5mm, IPC Medium Density)
footprint U208_L (Shrink QFP, 208-Leads, Body 28x28mm, Pitch 0.5mm, IPC High Density)
footprint U208_M (Shrink QFP, 208-Leads, Body 28x28mm, Pitch 0.5mm, IPC Low Density)
3D model U208 (208-Pin Ceramic Cavity Up Shrink Quad Flat Pack 0.5 mm Pitch)
part A pins: 2 I/O20 (io), 3 I/O21 (io), 4 I/O22 (io), 5 I/O23 (io), 6 I/O24 (io), 8 I/O25 (io), 9 I/O26 (io), 10 I/O27 (io), 11 I/O28 (io), 12 I/O29 (io), 14 I/O30 (io), 15 I/O31 (io), 16 I/O32 (io), 17 I/O33 (io), 18 I/O34 (io), 20 I/O35 (io), 21 I/O36 (io), 22 I/O37 (io), 23 I/O38 (io), 24 I/O39 (io), 30 I/O40 (io), 31 I/O41 (io), 32 I/O42 (io), 33 I/O43 (io), 34 I/O44 (io), 35 I/O45 (io), 36 I/O46 (io), 37 I/O47 (io), 38 I/O48 (io), 39 I/O49 (io), 41 I/O50 (io), 42 I/O51 (io), 43 I/O52 (io), 44 I/O53 (io), 45 I/O54 (io), 47 I/O55 (io), 48 I/O56 (io), 49 I/O57 (io), 50 I/O58 (io), 51 I/O59 (io), 54 I/O60 (io), 55 I/O61 (io), 56 I/O62 (io), 57 I/O63 (io), 58 I/O64 (io), 60 I/O65 (io), 61 I/O66 (io), 62 I/O67 (io), 63 I/O68 (io), 64 I/O69 (io), 66 I/O70 (io), 67 I/O71 (io), 68 I/O72 (io), 69 I/O73 (io), 70 I/O74 (io), 72 I/O75 (io), 73 I/O76 (io), 74 I/O77 (io), 75 I/O78 (io), 76 I/O79 (io), 81 I/O80 (io), 82 I/O81 (io), 83 I/O82 (io), 84 I/O83 (io), 85 I/O84 (io), 86 I/O85 (io), 87 I/O86 (io), 88 I/O87 (io), 89 I/O88 (io), 90 I/O89 (io), 92 I/O90 (io), 93 I/O91 (io), 94 I/O92 (io), 95 I/O93 (io), 96 I/O94 (io), 99 I/O95 (io), 100 I/O96 (io), 101 I/O97 (io), 102 I/O98 (io), 103 I/O99 (io), 106 I/O100 (io), 107 I/O101 (io), 108 I/O102 (io), 109 I/O103 (io), 110 I/O104 (io), 111 I/O105 (io), 112 I/O106 (io), 113 I/O107 (io), 114 I/O108 (io), 115 I/O109 (io), 117 I/O110 (io), 118 I/O111 (io), 119 I/O112 (io), 120 I/O113 (io), 121 I/O114 (io), 123 I/O115 (io), 124 I/O116 (io), 125 I/O117 (io), 126 I/O118 (io), 127 I/O119 (io), 134 I/O120 (io), 135 I/O121 (io), 136 I/O122 (io), 137 I/O123 (io), 138 I/O124 (io), 139 I/O125 (io), 140 I/O126 (io), 141 I/O127 (io), 142 I/O128 (io), 143 I/O129 (io), 145 I/O130 (io), 146 I/O131 (io), 147 I/O132 (io), 148 I/O133 (io), 149 I/O134 (io), 151 I/O135 (io), 152 I/O136 (io), 153 I/O137 (io), 154 I/O138 (io), 155 I/O139 (io), 159 I/O140 (io), 160 I/O141 (io), 161 I/O142 (io), 162 I/O143 (io), 163 I/O144 (io), 164 I/O145 (io), 165 I/O146 (io), 166 I/O147 (io), 167 I/O148 (io), 168 I/O149 (io), 170 I/O150 (io), 171 I/O151 (io), 172 I/O152 (io), 173 I/O153 (io), 174 I/O154 (io), 176 I/O155 (io), 177 I/O156 (io), 178 I/O157 (io), 179 I/O158 (io), 180 I/O159 (io), 185 I/O0 (io), 186 I/O1 (io), 187 I/O2 (io), 188 I/O3 (io), 189 I/O4 (io), 190 I/O5 (io), 191 I/O6 (io), 192 I/O7 (io), 193 I/O8 (io), 194 I/O9 (io), 196 I/O10 (io), 197 I/O11 (io), 198 I/O12 (io), 199 I/O13 (io), 200 I/O14 (io), 202 I/O15 (io), 203 I/O16 (io), 204 I/O17 (io), 205 I/O18 (io), 206 I/O19 (io)
part B pins: 1 GND (power), 7 TCK (in), 13 GND (power), 19 NC, 25 CLK0/IN0 (in), 26 VCC0 (power), 27 GND (power), 28 NC, 29 CLK1/IN1 (in), 40 GND (power), 46 NC, 52 VCC0 (power), 53 GND (power), 59 TMS (in), 65 GND (power), 71 NC, 77 IN2 (in), 78 VCC0 (power), 79 GND (power), 80 VCC (power), 91 GND (power), 97 GND (power), 98 TDO (out), 104 VCC0 (power), 105 GND (power), 116 GND (power), 122 NC, 128 CLK2/IN3 (in), 129 GND (power), 130 VCC0 (power), 131 GND (power), 132 VCC (power), 133 CLK3/IN4 (in), 144 GND (power), 150 TDI (in), 156 VCC0 (power), 157 GND (power), 158 NC, 169 GND (power), 175 NC, 181 NC, 182 VCC (power), 183 GND (power), 184 VCC0 (power), 195 GND (power), 201 NC, 207 VCC0 (power), 208 VCC (power)

## CY37032P44-125AC
designator U?
Ultra37000 5V, ISR High-Performance CPLD; Published: 11-Dec-2002; LatestRevisionDate: 13-Apr-2006; LatestRevisionNote: IPC-7351 Footprint Added.; DatasheetVersion: 18-Apr-2001; PackageVersion: Mar-2002; PackageReference: A44; Publisher: Altium Limited; PackageDescription: 44-Pin Thin Plastic Quad Flat Pack 0.8 mm Pitch; ComponentLink1Description: Manufacturer Link; ComponentLink1URL: http://www.cypress.com/; ComponentLink2Description: Datasheet; ComponentLink2URL: http://www.cypress.com/portal/server.pt/gateway/PTARGS_0_2_1524_209_259_43/http%3B/sjapp20.mis.cypress.com%3B7001/publishedcontent/publish/design_resources/datasheets/contents/cy37032p_5.pdf
footprint A44_N (Thin QFP, 44-Leads, Body 10x10mm, Pitch 0.8mm, IPC Medium Density)
footprint A44_L (Thin QFP, 44-Leads, Body 10x10mm, Pitch 0.8mm, IPC High Density)
footprint A44_M (Thin QFP, 44-Leads, Body 10x10mm, Pitch 0.8mm, IPC Low Density)
3D model CY37032P44-A44 (44-Pin Thin Plastic Quad Flat Pack 0.8 mm Pitch)
pins: 1 I/O5/TCK (io), 2 I/O6 (io), 3 I/O7 (io), 4 CLK2/IN0 (in), 5 JTAGEN (in), 6 GND (power), 7 CLK0/IN1 (in), 8 I/O8 (io), 9 I/O9 (io), 10 I/O10 (io), 11 I/O11 (io), 12 I/O12 (io), 13 I/O13/TMS (io), 14 I/O14 (io), 15 I/O15 (io), 16 VCC (power), 17 GND (power), 18 I/O16 (io), 19 I/O17 (io), 20 I/O18 (io), 21 I/O19/TDO (io), 22 I/O20 (io), 23 I/O21 (io), 24 I/O22 (io), 25 I/O23 (io), 26 CLK3/IN2 (in), 27 IN3 (in), 28 GND (power), 29 CLK1/IN4 (in), 30 I/O24 (io), 31 I/O25 (io), 32 I/O26 (io), 33 I/O27/TDI (io), 34 I/O28 (io), 35 I/O29 (io), 36 I/O30 (io), 37 I/O31 (io), 38 VCCO (power), 39 GND (power), 40 I/O0 (io), 41 I/O1 (io), 42 I/O2 (io), 43 I/O3 (io), 44 I/O4 (io)
text: Block A; Block B

## CY37032P44-125AI
designator U?
Ultra37000 5V, ISR High-Performance CPLD; Published: 11-Dec-2002; LatestRevisionDate: 13-Apr-2006; LatestRevisionNote: IPC-7351 Footprint Added.; DatasheetVersion: 18-Apr-2001; PackageVersion: Mar-2002; PackageReference: A44; Publisher: Altium Limited; PackageDescription: 44-Pin Thin Plastic Quad Flat Pack 0.8 mm Pitch; ComponentLink1Description: Manufacturer Link; ComponentLink1URL: http://www.cypress.com/; ComponentLink2Description: Datasheet; ComponentLink2URL: http://www.cypress.com/portal/server.pt/gateway/PTARGS_0_2_1524_209_259_43/http%3B/sjapp20.mis.cypress.com%3B7001/publishedcontent/publish/design_resources/datasheets/contents/cy37032p_5.pdf
footprint A44_N (Thin QFP, 44-Leads, Body 10x10mm, Pitch 0.8mm, IPC Medium Density)
footprint A44_L (Thin QFP, 44-Leads, Body 10x10mm, Pitch 0.8mm, IPC High Density)
footprint A44_M (Thin QFP, 44-Leads, Body 10x10mm, Pitch 0.8mm, IPC Low Density)
3D model CY37032P44-A44 (44-Pin Thin Plastic Quad Flat Pack 0.8 mm Pitch)
pins: 1 I/O5/TCK (io), 2 I/O6 (io), 3 I/O7 (io), 4 CLK2/IN0 (in), 5 JTAGEN (in), 6 GND (power), 7 CLK0/IN1 (in), 8 I/O8 (io), 9 I/O9 (io), 10 I/O10 (io), 11 I/O11 (io), 12 I/O12 (io), 13 I/O13/TMS (io), 14 I/O14 (io), 15 I/O15 (io), 16 VCC (power), 17 GND (power), 18 I/O16 (io), 19 I/O17 (io), 20 I/O18 (io), 21 I/O19/TDO (io), 22 I/O20 (io), 23 I/O21 (io), 24 I/O22 (io), 25 I/O23 (io), 26 CLK3/IN2 (in), 27 IN3 (in), 28 GND (power), 29 CLK1/IN4 (in), 30 I/O24 (io), 31 I/O25 (io), 32 I/O26 (io), 33 I/O27/TDI (io), 34 I/O28 (io), 35 I/O29 (io), 36 I/O30 (io), 37 I/O31 (io), 38 VCCO (power), 39 GND (power), 40 I/O0 (io), 41 I/O1 (io), 42 I/O2 (io), 43 I/O3 (io), 44 I/O4 (io)
text: Block A; Block B

## CY37032P44-125JC
designator U?
Ultra37000 5V, ISR High-Performance CPLD; Published: 11-Dec-2002; LatestRevisionDate: 13-Apr-2006; LatestRevisionNote: IPC-7351 Footprint Added.; DatasheetVersion: 18-Apr-2001; PackageVersion: Mar-2001; PackageReference: J67; Publisher: Altium Limited; PackageDescription: 44-Pin Plastic Leaded Chip Carrier 1.27 mm Pitch; ComponentLink1Description: Manufacturer Link; ComponentLink1URL: http://www.cypress.com/; ComponentLink2Description: Datasheet; ComponentLink2URL: http://www.cypress.com/portal/server.pt/gateway/PTARGS_0_2_1524_209_259_43/http%3B/sjapp20.mis.cypress.com%3B7001/publishedcontent/publish/design_resources/datasheets/contents/cy37032p_5.pdf
footprint J67_N (Leaded Chip Carrier, 44-Leads, Body 16.6x16.6mm, Pitch 1.27mm, IPC Medium Density)
footprint J67_L (Leaded Chip Carrier, 44-Leads, Body 16.6x16.6mm, Pitch 1.27mm, IPC High Density)
footprint J67_M (Leaded Chip Carrier, 44-Leads, Body 16.6x16.6mm, Pitch 1.27mm, IPC Low Density)
3D model CY37032P44-J67 (44-Pin Plastic Leaded Chip Carrier 1.27 mm Pitch)
pins: 1 GND (power), 2 I/O0 (io), 3 I/O1 (io), 4 I/O2 (io), 5 I/O3 (io), 6 I/O4 (io), 7 I/O5/TCK (io), 8 I/O6 (io), 9 I/O7 (io), 10 CLK2/IN0 (in), 11 JTAGEN (in), 12 GND (power), 13 CLK0/IN1 (in), 14 I/O8 (io), 15 I/O9 (io), 16 I/O10 (io), 17 I/O11 (io), 18 I/O12 (io), 19 I/O13/TMS (io), 20 I/O14 (io), 21 I/O15 (io), 22 VCC (power), 23 GND (power), 24 I/O16 (io), 25 I/O17 (io), 26 I/O18 (io), 27 I/O19/TDO (io), 28 I/O20 (io), 29 I/O21 (io), 30 I/O22 (io), 31 I/O23 (io), 32 CLK3/IN2 (in), 33 IN3 (in), 34 GND (power), 35 CLK1/IN4 (in), 36 I/O24 (io), 37 I/O25 (io), 38 I/O26 (io), 39 I/O27/TDI (io), 40 I/O28 (io), 41 I/O29 (io), 42 I/O30 (io), 43 I/O31 (io), 44 VCCO (power)
text: Block A; Block B

## CY37032P44-125JI
designator U?
Ultra37000 5V, ISR High-Performance CPLD; Published: 11-Dec-2002; LatestRevisionDate: 13-Apr-2006; LatestRevisionNote: IPC-7351 Footprint Added.; DatasheetVersion: 18-Apr-2001; PackageVersion: Mar-2001; PackageReference: J67; Publisher: Altium Limited; PackageDescription: 44-Pin Plastic Leaded Chip Carrier 1.27 mm Pitch; ComponentLink1Description: Manufacturer Link; ComponentLink1URL: http://www.cypress.com/; ComponentLink2Description: Datasheet; ComponentLink2URL: http://www.cypress.com/portal/server.pt/gateway/PTARGS_0_2_1524_209_259_43/http%3B/sjapp20.mis.cypress.com%3B7001/publishedcontent/publish/design_resources/datasheets/contents/cy37032p_5.pdf
footprint J67_N (Leaded Chip Carrier, 44-Leads, Body 16.6x16.6mm, Pitch 1.27mm, IPC Medium Density)
footprint J67_L (Leaded Chip Carrier, 44-Leads, Body 16.6x16.6mm, Pitch 1.27mm, IPC High Density)
footprint J67_M (Leaded Chip Carrier, 44-Leads, Body 16.6x16.6mm, Pitch 1.27mm, IPC Low Density)
3D model CY37032P44-J67 (44-Pin Plastic Leaded Chip Carrier 1.27 mm Pitch)
pins: 1 GND (power), 2 I/O0 (io), 3 I/O1 (io), 4 I/O2 (io), 5 I/O3 (io), 6 I/O4 (io), 7 I/O5/TCK (io), 8 I/O6 (io), 9 I/O7 (io), 10 CLK2/IN0 (in), 11 JTAGEN (in), 12 GND (power), 13 CLK0/IN1 (in), 14 I/O8 (io), 15 I/O9 (io), 16 I/O10 (io), 17 I/O11 (io), 18 I/O12 (io), 19 I/O13/TMS (io), 20 I/O14 (io), 21 I/O15 (io), 22 VCC (power), 23 GND (power), 24 I/O16 (io), 25 I/O17 (io), 26 I/O18 (io), 27 I/O19/TDO (io), 28 I/O20 (io), 29 I/O21 (io), 30 I/O22 (io), 31 I/O23 (io), 32 CLK3/IN2 (in), 33 IN3 (in), 34 GND (power), 35 CLK1/IN4 (in), 36 I/O24 (io), 37 I/O25 (io), 38 I/O26 (io), 39 I/O27/TDI (io), 40 I/O28 (io), 41 I/O29 (io), 42 I/O30 (io), 43 I/O31 (io), 44 VCCO (power)
text: Block A; Block B

## CY37032P44-154AC
designator U?
Ultra37000 5V, ISR High-Performance CPLD; Published: 11-Dec-2002; LatestRevisionDate: 13-Apr-2006; LatestRevisionNote: IPC-7351 Footprint Added.; DatasheetVersion: 18-Apr-2001; PackageVersion: Mar-2002; PackageReference: A44; Publisher: Altium Limited; PackageDescription: 44-Pin Thin Plastic Quad Flat Pack 0.8 mm Pitch; ComponentLink1Description: Manufacturer Link; ComponentLink1URL: http://www.cypress.com/; ComponentLink2Description: Datasheet; ComponentLink2URL: http://www.cypress.com/portal/server.pt/gateway/PTARGS_0_2_1524_209_259_43/http%3B/sjapp20.mis.cypress.com%3B7001/publishedcontent/publish/design_resources/datasheets/contents/cy37032p_5.pdf
footprint A44_N (Thin QFP, 44-Leads, Body 10x10mm, Pitch 0.8mm, IPC Medium Density)
footprint A44_L (Thin QFP, 44-Leads, Body 10x10mm, Pitch 0.8mm, IPC High Density)
footprint A44_M (Thin QFP, 44-Leads, Body 10x10mm, Pitch 0.8mm, IPC Low Density)
3D model CY37032P44-A44 (44-Pin Thin Plastic Quad Flat Pack 0.8 mm Pitch)
pins: 1 I/O5/TCK (io), 2 I/O6 (io), 3 I/O7 (io), 4 CLK2/IN0 (in), 5 JTAGEN (in), 6 GND (power), 7 CLK0/IN1 (in), 8 I/O8 (io), 9 I/O9 (io), 10 I/O10 (io), 11 I/O11 (io), 12 I/O12 (io), 13 I/O13/TMS (io), 14 I/O14 (io), 15 I/O15 (io), 16 VCC (power), 17 GND (power), 18 I/O16 (io), 19 I/O17 (io), 20 I/O18 (io), 21 I/O19/TDO (io), 22 I/O20 (io), 23 I/O21 (io), 24 I/O22 (io), 25 I/O23 (io), 26 CLK3/IN2 (in), 27 IN3 (in), 28 GND (power), 29 CLK1/IN4 (in), 30 I/O24 (io), 31 I/O25 (io), 32 I/O26 (io), 33 I/O27/TDI (io), 34 I/O28 (io), 35 I/O29 (io), 36 I/O30 (io), 37 I/O31 (io), 38 VCCO (power), 39 GND (power), 40 I/O0 (io), 41 I/O1 (io), 42 I/O2 (io), 43 I/O3 (io), 44 I/O4 (io)
text: Block A; Block B

## CY37032P44-154AI
designator U?
Ultra37000 5V, ISR High-Performance CPLD; Published: 11-Dec-2002; LatestRevisionDate: 13-Apr-2006; LatestRevisionNote: IPC-7351 Footprint Added.; DatasheetVersion: 18-Apr-2001; PackageVersion: Mar-2002; PackageReference: A44; Publisher: Altium Limited; PackageDescription: 44-Pin Thin Plastic Quad Flat Pack 0.8 mm Pitch; ComponentLink1Description: Manufacturer Link; ComponentLink1URL: http://www.cypress.com/; ComponentLink2Description: Datasheet; ComponentLink2URL: http://www.cypress.com/portal/server.pt/gateway/PTARGS_0_2_1524_209_259_43/http%3B/sjapp20.mis.cypress.com%3B7001/publishedcontent/publish/design_resources/datasheets/contents/cy37032p_5.pdf
footprint A44_N (Thin QFP, 44-Leads, Body 10x10mm, Pitch 0.8mm, IPC Medium Density)
footprint A44_L (Thin QFP, 44-Leads, Body 10x10mm, Pitch 0.8mm, IPC High Density)
footprint A44_M (Thin QFP, 44-Leads, Body 10x10mm, Pitch 0.8mm, IPC Low Density)
3D model CY37032P44-A44 (44-Pin Thin Plastic Quad Flat Pack 0.8 mm Pitch)
pins: 1 I/O5/TCK (io), 2 I/O6 (io), 3 I/O7 (io), 4 CLK2/IN0 (in), 5 JTAGEN (in), 6 GND (power), 7 CLK0/IN1 (in), 8 I/O8 (io), 9 I/O9 (io), 10 I/O10 (io), 11 I/O11 (io), 12 I/O12 (io), 13 I/O13/TMS (io), 14 I/O14 (io), 15 I/O15 (io), 16 VCC (power), 17 GND (power), 18 I/O16 (io), 19 I/O17 (io), 20 I/O18 (io), 21 I/O19/TDO (io), 22 I/O20 (io), 23 I/O21 (io), 24 I/O22 (io), 25 I/O23 (io), 26 CLK3/IN2 (in), 27 IN3 (in), 28 GND (power), 29 CLK1/IN4 (in), 30 I/O24 (io), 31 I/O25 (io), 32 I/O26 (io), 33 I/O27/TDI (io), 34 I/O28 (io), 35 I/O29 (io), 36 I/O30 (io), 37 I/O31 (io), 38 VCCO (power), 39 GND (power), 40 I/O0 (io), 41 I/O1 (io), 42 I/O2 (io), 43 I/O3 (io), 44 I/O4 (io)
text: Block A; Block B

## CY37032P44-154JC
designator U?
Ultra37000 5V, ISR High-Performance CPLD; Published: 11-Dec-2002; LatestRevisionDate: 13-Apr-2006; LatestRevisionNote: IPC-7351 Footprint Added.; DatasheetVersion: 18-Apr-2001; PackageVersion: Mar-2001; PackageReference: J67; Publisher: Altium Limited; PackageDescription: 44-Pin Plastic Leaded Chip Carrier 1.27 mm Pitch; ComponentLink1Description: Manufacturer Link; ComponentLink1URL: http://www.cypress.com/; ComponentLink2Description: Datasheet; ComponentLink2URL: http://www.cypress.com/portal/server.pt/gateway/PTARGS_0_2_1524_209_259_43/http%3B/sjapp20.mis.cypress.com%3B7001/publishedcontent/publish/design_resources/datasheets/contents/cy37032p_5.pdf
footprint J67_N (Leaded Chip Carrier, 44-Leads, Body 16.6x16.6mm, Pitch 1.27mm, IPC Medium Density)
footprint J67_L (Leaded Chip Carrier, 44-Leads, Body 16.6x16.6mm, Pitch 1.27mm, IPC High Density)
footprint J67_M (Leaded Chip Carrier, 44-Leads, Body 16.6x16.6mm, Pitch 1.27mm, IPC Low Density)
3D model CY37032P44-J67 (44-Pin Plastic Leaded Chip Carrier 1.27 mm Pitch)
pins: 1 GND (power), 2 I/O0 (io), 3 I/O1 (io), 4 I/O2 (io), 5 I/O3 (io), 6 I/O4 (io), 7 I/O5/TCK (io), 8 I/O6 (io), 9 I/O7 (io), 10 CLK2/IN0 (in), 11 JTAGEN (in), 12 GND (power), 13 CLK0/IN1 (in), 14 I/O8 (io), 15 I/O9 (io), 16 I/O10 (io), 17 I/O11 (io), 18 I/O12 (io), 19 I/O13/TMS (io), 20 I/O14 (io), 21 I/O15 (io), 22 VCC (power), 23 GND (power), 24 I/O16 (io), 25 I/O17 (io), 26 I/O18 (io), 27 I/O19/TDO (io), 28 I/O20 (io), 29 I/O21 (io), 30 I/O22 (io), 31 I/O23 (io), 32 CLK3/IN2 (in), 33 IN3 (in), 34 GND (power), 35 CLK1/IN4 (in), 36 I/O24 (io), 37 I/O25 (io), 38 I/O26 (io), 39 I/O27/TDI (io), 40 I/O28 (io), 41 I/O29 (io), 42 I/O30 (io), 43 I/O31 (io), 44 VCCO (power)
text: Block A; Block B

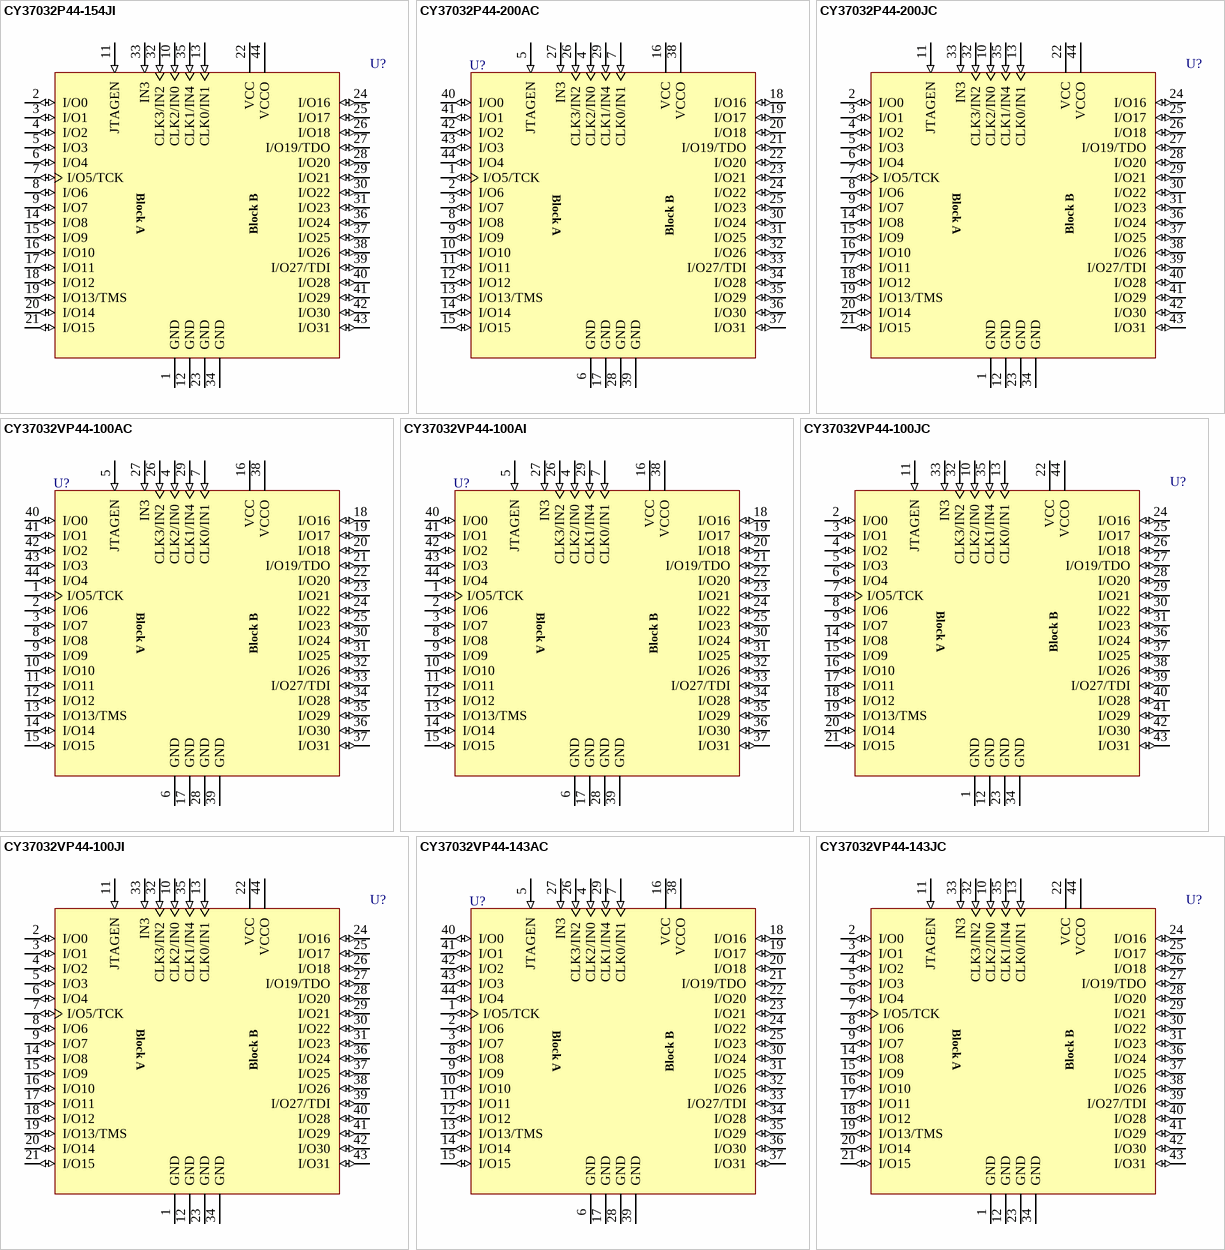
[diagram p6: symbols CY37032P44-154JI to CY37032VP44-143JC]